# Altium integrated library Xilinx Virtex-II Pro.IntLib: 140 symbols (part 4 of 77)
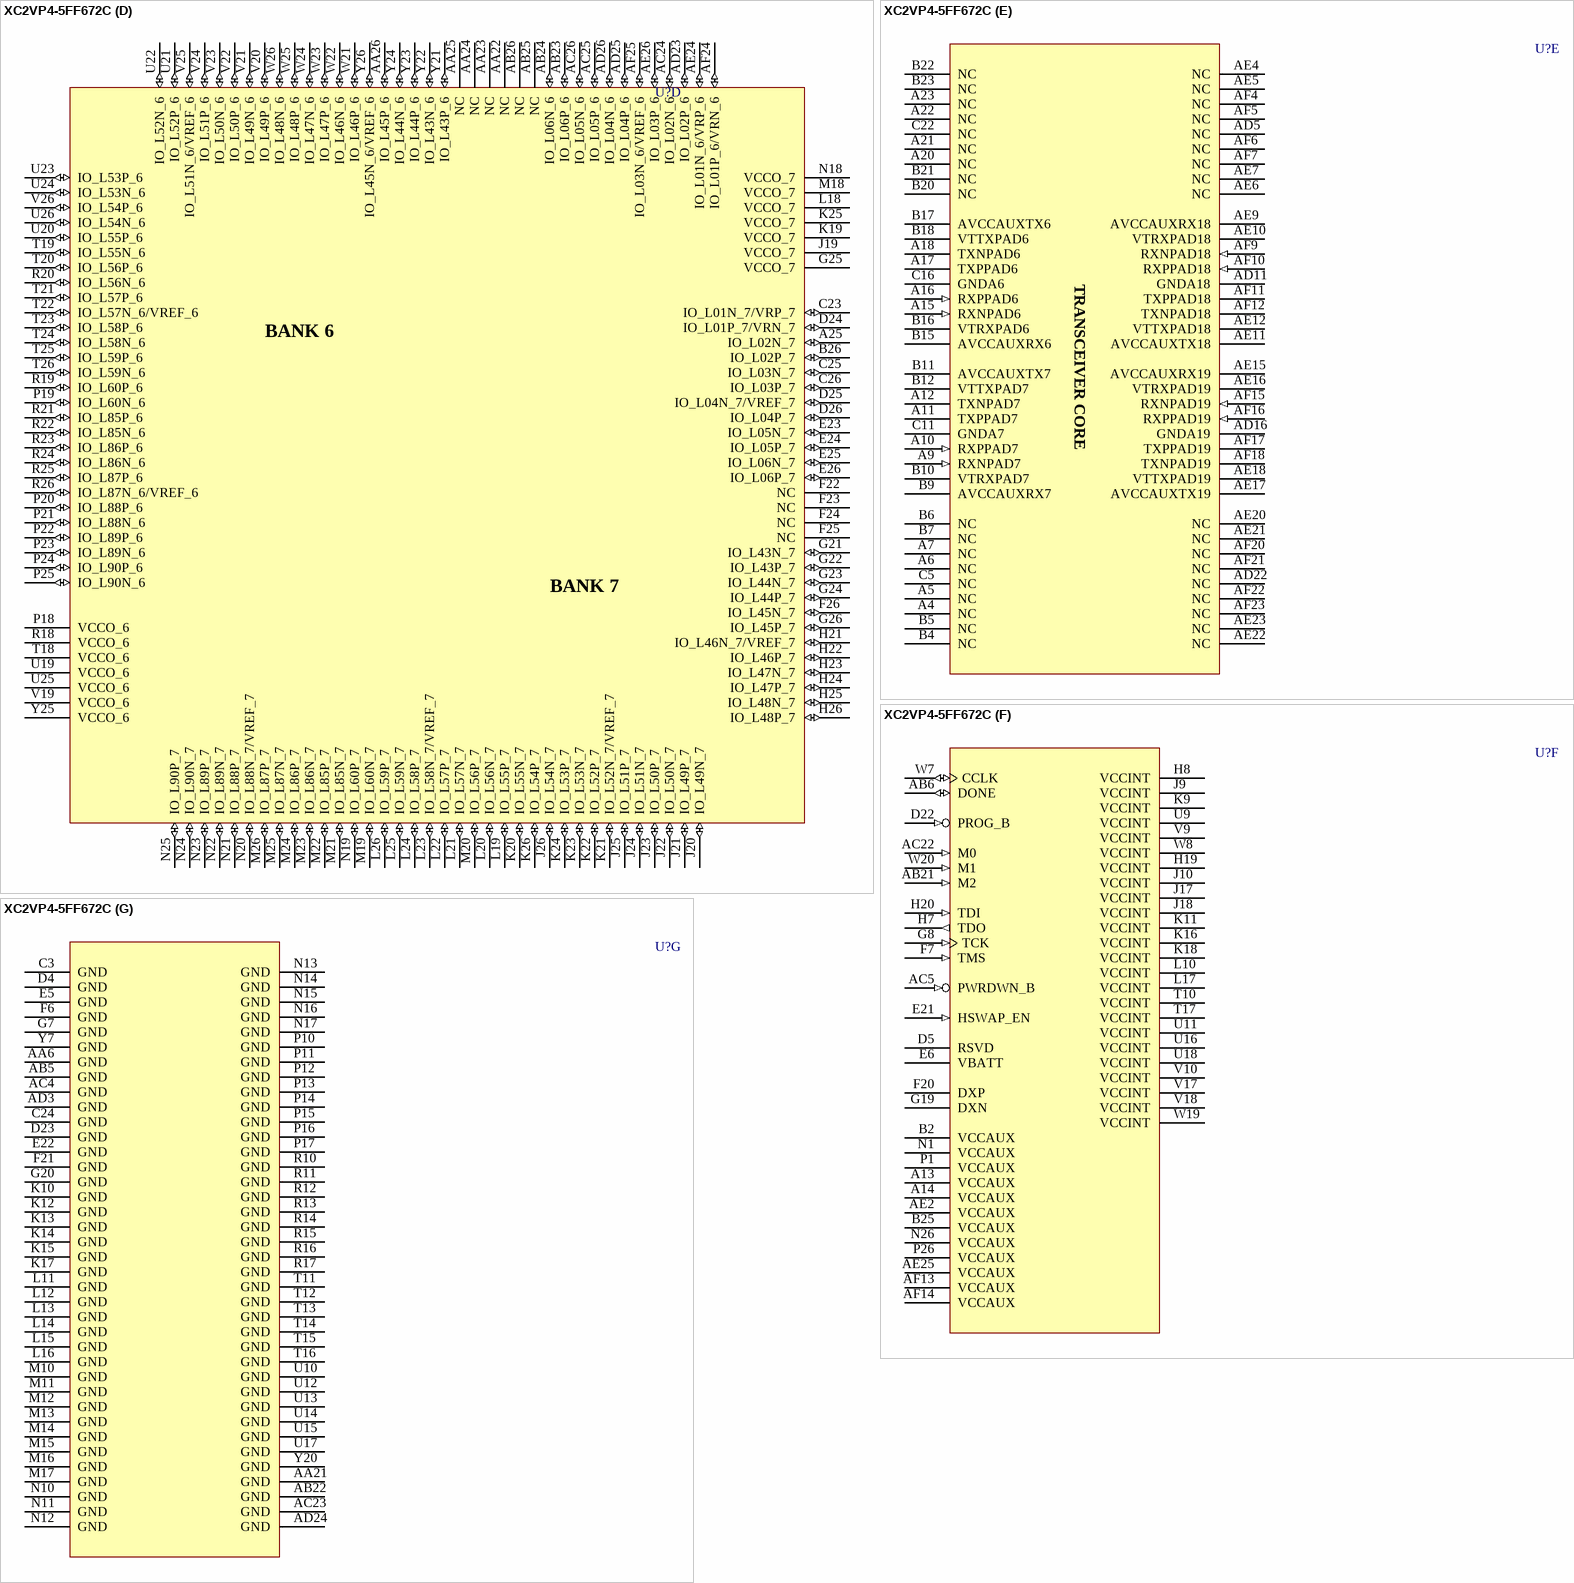
[diagram p402: symbol XC2VP4-5FF672C]

## XC2VP4-5FF672C
designator U?
Virtex-II Pro Platform FPGA, 672-Ball FFBGA, Speed Grade 5, 348 User I/Os, Commercial Grade; ManufacturerRecommends: Solder pad diameter 0.48mm SMD; PackageDocument: ver1.0, Oct-2002; User_I/Os: 348; Published: 17-Jul-2002; LatestRevisionDate: 16-Apr-2003; LatestRevisionNote: Minor layout changes, TXN/TXP Pins changed from 'Output' to 'HiZ'.  'PROG_B' pin types changed from IO to Input.; DatasheetDocument: 22-Apr-2004; PackageReference: FF672; Publisher: Altium Limited; Code_JEDEC: MS-034-AAL-1
footprint FF672 (672-Ball Flip-Chip Fine Pitch Ball Grid Array (FF672))
3D model XC2VP4-FF672 (672-Ball Flip-Chip Fine Pitch Ball Grid Array (FF672))
signal-integrity model XC2VP4_FF672 (Virtex-II Pro)
part A pins: A3 IO_L01N_1/VRP_1 (io), A8 IO_L08N_1 (io), A19 IO_L08P_0 (io), A24 IO_L01P_0/VRN_0 (io), B3 IO_L01P_1/VRN_1 (io), B8 IO_L08P_1 (io), B13 IO_L75N_1/GCLK3P (io), B14 IO_L75P_0/GCLK4S (io), B19 IO_L08N_0 (io), B24 IO_L01N_0/VRP_0 (io), C6 IO_L02N_1 (io), C7 VCCO_1 (power), C8 IO_L07N_1 (io), C9 NC, C10 VCCO_1 (power), C12 IO_L68N_1 (io), C13 IO_L75P_1/GCLK2S (io), C14 IO_L75N_0/GCLK5P (io), C15 IO_L68P_0 (io), C17 VCCO_0 (power), C18 NC, C19 IO_L07P_0 (io), C20 VCCO_0 (power), C21 IO_L02P_0 (io), D6 IO_L02P_1 (io), D7 IO_L03N_1/VREF_1 (io), D8 IO_L07P_1 (io), D9 NC, D10 NC, D11 NC, D12 IO_L68P_1 (io), D13 IO_L74N_1/GCLK1P (io), D14 IO_L74P_0/GCLK6S (io), D15 IO_L68N_0 (io), D16 NC, D17 NC, D18 NC, D19 IO_L07N_0 (io), D20 IO_L03P_0/VREF_0 (io), D21 IO_L02N_0 (io), E7 IO_L03P_1 (io), E8 IO_L06P_1 (io), E9 IO_L06N_1 (io), E10 NC, E11 NC, E12 IO_L67N_1 (io), E13 IO_L74P_1/GCLK0S (io), E14 IO_L74N_0/GCLK7P (io), E15 IO_L67P_0 (io), E16 NC, E17 NC, E18 IO_L06P_0 (io), E19 IO_L06N_0 (io), E20 IO_L03N_0 (io), F8 IO_L05_1/No_Pair (io), F9 IO_L09N_1/VREF_1 (io), F10 NC, F11 NC, F12 IO_L67P_1 (io), F13 IO_L73N_1 (io), F14 IO_L73P_0 (io), F15 IO_L67N_0 (io), F16 NC, F17 NC, F18 IO_L09P_0/VREF_0 (io), F19 IO_L05_0/No_Pair (io), G9 IO_L09P_1 (io), G10 NC, G11 NC, G12 NC, G13 IO_L73P_1 (io), G14 IO_L73N_0 (io), G15 NC, G16 NC, G17 NC, G18 IO_L09N_0 (io), H9 VCCO_1 (power), H10 VCCO_1 (power), H11 NC, H12 IO_L69P_1 (io), H13 IO_L69N_1/VREF_1 (io), H14 IO_L69P_0/VREF_0 (io), H15 IO_L69N_0 (io), H16 NC, H17 VCCO_0 (power), H18 VCCO_0 (power), J11 VCCO_1 (power), J12 VCCO_1 (power), J13 VCCO_1 (power), J14 VCCO_0 (power), J15 VCCO_0 (power), J16 VCCO_0 (power)
part B pins: A2 IO_L02N_2 (io), AA1 IO_L45P_3 (io), AA2 NC, AA3 NC, AA4 NC, AA5 NC, AB1 NC, AB2 NC, AB3 IO_L06N_3 (io), AB4 IO_L06P_3 (io), AC1 IO_L05N_3 (io), AC2 IO_L05P_3 (io), AC3 IO_L02N_3 (io), AD1 IO_L04N_3 (io), AD2 IO_L04P_3 (io), AD4 IO_L02P_3 (io), AE1 IO_L03N_3/VREF_3 (io), AE3 IO_L01N_3/VRP_3 (io), AF2 IO_L03P_3 (io), AF3 IO_L01P_3/VRN_3 (io), B1 IO_L02P_2 (io), C1 IO_L03P_2 (io), C2 IO_L03N_2 (io), C4 IO_L01N_2/VRP_2 (io), D1 IO_L04P_2 (io), D2 IO_L04N_2/VREF_2 (io), D3 IO_L01P_2/VRN_2 (io), E1 IO_L06P_2 (io), E2 IO_L06N_2 (io), E3 IO_L05P_2 (io), E4 IO_L05N_2 (io), F1 IO_L45N_2 (io), F2 NC, F3 NC, F4 NC, F5 NC, G1 IO_L45P_2 (io), G2 VCCO_2 (power), G3 IO_L44P_2 (io), G4 IO_L44N_2 (io), G5 IO_L43P_2 (io), G6 IO_L43N_2 (io), H1 IO_L48P_2 (io), H2 IO_L48N_2 (io), H3 IO_L47P_2 (io), H4 IO_L47N_2 (io), H5 IO_L46P_2 (io), H6 IO_L46N_2/VREF_2 (io), J1 IO_L54N_2 (io), J2 IO_L51P_2 (io), J3 IO_L51N_2 (io), J4 IO_L50P_2 (io), J5 IO_L50N_2 (io), J6 IO_L49P_2 (io), J7 IO_L49N_2 (io), J8 VCCO_2 (power), K1 IO_L54P_2 (io), K2 VCCO_2 (power), K3 IO_L53P_2 (io), K4 IO_L53N_2 (io), K5 IO_L52P_2 (io), K6 IO_L52N_2/VREF_2 (io), K7 IO_L55N_2 (io), K8 VCCO_2 (power), L1 IO_L59P_2 (io), L2 IO_L59N_2 (io), L3 IO_L58P_2 (io), L4 IO_L58N_2/VREF_2 (io), L5 IO_L57P_2 (io), L6 IO_L57N_2 (io), L7 IO_L56N_2 (io), L8 IO_L55P_2 (io), L9 VCCO_2 (power), M1 IO_L87P_2 (io), M2 IO_L87N_2 (io), M3 IO_L86P_2 (io), M4 IO_L86N_2 (io), M5 IO_L85P_2 (io), M6 IO_L85N_2 (io), M7 IO_L56P_2 (io), M8 IO_L60N_2 (io), M9 VCCO_2 (power), N2 IO_L90P_2 (io), N3 IO_L90N_2 (io), N4 IO_L89P_2 (io), N5 IO_L89N_2 (io), N6 IO_L88P_2 (io), N7 IO_L88N_2/VREF_2 (io), N8 IO_L60P_2 (io), N9 VCCO_2 (power), P2 IO_L90N_3 (io), P3 IO_L90P_3 (io), P4 IO_L89N_3 (io), P5 IO_L89P_3 (io), P6 IO_L88N_3 (io), P7 IO_L88P_3 (io), P8 IO_L60N_3 (io), P9 VCCO_3 (power), R1 IO_L87N_3/VREF_3 (io), R2 IO_L87P_3 (io), R3 IO_L86N_3 (io), R4 IO_L86P_3 (io), R5 IO_L85N_3 (io), R6 IO_L85P_3 (io), R7 IO_L56N_3 (io), R8 IO_L60P_3 (io), R9 VCCO_3 (power), T1 IO_L59N_3 (io), T2 IO_L59P_3 (io), T3 IO_L58N_3 (io), T4 IO_L58P_3 (io), T5 IO_L57N_3/VREF_3 (io), T6 IO_L57P_3 (io), T7 IO_L56P_3 (io), T8 IO_L55N_3 (io), T9 VCCO_3 (power), U1 IO_L54N_3 (io), U2 VCCO_3 (power), U3 IO_L53N_3 (io), U4 IO_L53P_3 (io), U5 IO_L52N_3 (io), U6 IO_L52P_3 (io), U7 IO_L55P_3 (io), U8 VCCO_3 (power), V1 IO_L54P_3 (io), V2 IO_L51N_3/VREF_3 (io), V3 IO_L51P_3 (io), V4 IO_L50N_3 (io), V5 IO_L50P_3 (io), V6 IO_L49N_3 (io), V7 IO_L49P_3 (io), V8 VCCO_3 (power), W1 IO_L48N_3 (io), W2 IO_L48P_3 (io), W3 IO_L47N_3 (io), W4 IO_L47P_3 (io), W5 IO_L46N_3 (io), W6 IO_L46P_3 (io), Y1 IO_L45N_3/VREF_3 (io), Y2 VCCO_3 (power), Y3 IO_L44N_3 (io), Y4 IO_L44P_3 (io), Y5 IO_L43N_3 (io), Y6 IO_L43P_3 (io)
part C pins: AA7 IO_L03N_4/D2 (io), AA8 IO_L03P_4/D3 (io), AA9 IO_L09P_4/VREF_4 (io), AA10 NC, AA11 NC, AA12 IO_L67N_4 (io), AA13 IO_L73P_4 (io), AA14 IO_L73N_5 (io), AA15 IO_L67P_5 (io), AA16 NC, AA17 NC, AA18 IO_L09N_5/VREF_5 (io), AA19 IO_L03N_5/D4 (io), AA20 IO_L03P_5/D5 (io), AB7 IO_L02N_4/D0 (io), AB8 IO_L06N_4/VRP_4 (io), AB9 IO_L06P_4/VRN_4 (io), AB10 NC, AB11 NC, AB12 IO_L67P_4 (io), AB13 IO_L74N_4/GCLK3S (io), AB14 IO_L74P_5/GCLK4P (io), AB15 IO_L67N_5 (io), AB16 NC, AB17 NC, AB18 IO_L06N_5/VRP_5 (io), AB19 IO_L06P_5/VRN_5 (io), AB20 IO_L02P_5/D7 (io), AC6 IO_L01N_4/DOUT (io), AC7 IO_L02P_4/D1 (io), AC8 IO_L07N_4 (io), AC9 NC, AC10 NC, AC11 NC, AC12 IO_L68N_4 (io), AC13 IO_L74P_4/GCLK2P (io), AC14 IO_L74N_5/GCLK5S (io), AC15 IO_L68P_5 (io), AC16 NC, AC17 NC, AC18 NC, AC19 IO_L07P_5 (io), AC20 IO_L02N_5/D6 (io), AC21 IO_L01P_5/CS_B (io), AD6 IO_L01P_4/INIT_B (io), AD7 VCCO_4 (power), AD8 IO_L07P_4/VREF_4 (io), AD9 NC, AD10 VCCO_4 (power), AD12 IO_L68P_4 (io), AD13 IO_L75N_4/GCLK1S (io), AD14 IO_L75P_5/GCLK6P (io), AD15 IO_L68N_5 (io), AD17 VCCO_5 (power), AD18 NC, AD19 IO_L07N_5/VREF_5 (io), AD20 VCCO_5 (power), AD21 IO_L01N_5/RDWR_B (io), AE8 IO_L08N_4 (io), AE13 IO_L75P_4/GCLK0P (io), AE14 IO_L75N_5/GCLK7S (io), AE19 IO_L08P_5 (io), AF8 IO_L08P_4 (io), AF19 IO_L08N_5 (io), V11 VCCO_4 (power), V12 VCCO_4 (power), V13 VCCO_4 (power), V14 VCCO_5 (power), V15 VCCO_5 (power), V16 VCCO_5 (power), W9 VCCO_4 (power), W10 VCCO_4 (power), W11 NC, W12 IO_L69N_4 (io), W13 IO_L69P_4/VREF_4 (io), W14 IO_L69N_5/VREF_5 (io), W15 IO_L69P_5 (io), W16 NC, W17 VCCO_5 (power), W18 VCCO_5 (power), Y8 IO_L05_4/No_Pair (io), Y9 IO_L09N_4 (io), Y10 NC, Y11 NC, Y12 NC, Y13 IO_L73N_4 (io), Y14 IO_L73P_5 (io), Y15 NC, Y16 NC, Y17 NC, Y18 IO_L09P_5 (io), Y19 IO_L05_5/No_Pair (io)
part D pins: A25 IO_L02N_7 (io), AA22 NC, AA23 NC, AA24 NC, AA25 NC, AA26 IO_L45P_6 (io), AB23 IO_L06P_6 (io), AB24 IO_L06N_6 (io), AB25 NC, AB26 NC, AC24 IO_L02N_6 (io), AC25 IO_L05P_6 (io), AC26 IO_L05N_6 (io), AD23 IO_L02P_6 (io), AD25 IO_L04P_6 (io), AD26 IO_L04N_6 (io), AE24 IO_L01N_6/VRP_6 (io), AE26 IO_L03P_6 (io), AF24 IO_L01P_6/VRN_6 (io), AF25 IO_L03N_6/VREF_6 (io), B26 IO_L02P_7 (io), C23 IO_L01N_7/VRP_7 (io), C25 IO_L03N_7 (io), C26 IO_L03P_7 (io), D24 IO_L01P_7/VRN_7 (io), D25 IO_L04N_7/VREF_7 (io), D26 IO_L04P_7 (io), E23 IO_L05N_7 (io), E24 IO_L05P_7 (io), E25 IO_L06N_7 (io), E26 IO_L06P_7 (io), F22 NC, F23 NC, F24 NC, F25 NC, F26 IO_L45N_7 (io), G21 IO_L43N_7 (io), G22 IO_L43P_7 (io), G23 IO_L44N_7 (io), G24 IO_L44P_7 (io), G25 VCCO_7 (power), G26 IO_L45P_7 (io), H21 IO_L46N_7/VREF_7 (io), H22 IO_L46P_7 (io), H23 IO_L47N_7 (io), H24 IO_L47P_7 (io), H25 IO_L48N_7 (io), H26 IO_L48P_7 (io), J19 VCCO_7 (power), J20 IO_L49N_7 (io), J21 IO_L49P_7 (io), J22 IO_L50N_7 (io), J23 IO_L50P_7 (io), J24 IO_L51N_7 (io), J25 IO_L51P_7 (io), J26 IO_L54N_7 (io), K19 VCCO_7 (power), K20 IO_L55N_7 (io), K21 IO_L52N_7/VREF_7 (io), K22 IO_L52P_7 (io), K23 IO_L53N_7 (io), K24 IO_L53P_7 (io), K25 VCCO_7 (power), K26 IO_L54P_7 (io), L18 VCCO_7 (power), L19 IO_L55P_7 (io), L20 IO_L56N_7 (io), L21 IO_L57N_7 (io), L22 IO_L57P_7 (io), L23 IO_L58N_7/VREF_7 (io), L24 IO_L58P_7 (io), L25 IO_L59N_7 (io), L26 IO_L59P_7 (io), M18 VCCO_7 (power), M19 IO_L60N_7 (io), M20 IO_L56P_7 (io), M21 IO_L85N_7 (io), M22 IO_L85P_7 (io), M23 IO_L86N_7 (io), M24 IO_L86P_7 (io), M25 IO_L87N_7 (io), M26 IO_L87P_7 (io), N18 VCCO_7 (power), N19 IO_L60P_7 (io), N20 IO_L88N_7/VREF_7 (io), N21 IO_L88P_7 (io), N22 IO_L89N_7 (io), N23 IO_L89P_7 (io), N24 IO_L90N_7 (io), N25 IO_L90P_7 (io), P18 VCCO_6 (power), P19 IO_L60N_6 (io), P20 IO_L88P_6 (io), P21 IO_L88N_6 (io), P22 IO_L89P_6 (io), P23 IO_L89N_6 (io), P24 IO_L90P_6 (io), P25 IO_L90N_6 (io), R18 VCCO_6 (power), R19 IO_L60P_6 (io), R20 IO_L56N_6 (io), R21 IO_L85P_6 (io), R22 IO_L85N_6 (io), R23 IO_L86P_6 (io), R24 IO_L86N_6 (io), R25 IO_L87P_6 (io), R26 IO_L87N_6/VREF_6 (io), T18 VCCO_6 (power), T19 IO_L55N_6 (io), T20 IO_L56P_6 (io), T21 IO_L57P_6 (io), T22 IO_L57N_6/VREF_6 (io), T23 IO_L58P_6 (io), T24 IO_L58N_6 (io), T25 IO_L59P_6 (io), T26 IO_L59N_6 (io), U19 VCCO_6 (power), U20 IO_L55P_6 (io), U21 IO_L52P_6 (io), U22 IO_L52N_6 (io), U23 IO_L53P_6 (io), U24 IO_L53N_6 (io), U25 VCCO_6 (power), U26 IO_L54N_6 (io), V19 VCCO_6 (power), V20 IO_L49P_6 (io), V21 IO_L49N_6 (io), V22 IO_L50P_6 (io), V23 IO_L50N_6 (io), V24 IO_L51P_6 (io), V25 IO_L51N_6/VREF_6 (io), V26 IO_L54P_6 (io), W21 IO_L46P_6 (io), W22 IO_L46N_6 (io), W23 IO_L47P_6 (io), W24 IO_L47N_6 (io), W25 IO_L48P_6 (io), W26 IO_L48N_6 (io), Y21 IO_L43P_6 (io), Y22 IO_L43N_6 (io), Y23 IO_L44P_6 (io), Y24 IO_L44N_6 (io), Y25 VCCO_6 (power), Y26 IO_L45N_6/VREF_6 (io)
part E pins: A4 NC, A5 NC, A6 NC, A7 NC, A9 RXNPAD7 (in), A10 RXPPAD7 (in), A11 TXPPAD7 (hiz), A12 TXNPAD7 (hiz), A15 RXNPAD6 (in), A16 RXPPAD6 (in), A17 TXPPAD6 (hiz), A18 TXNPAD6 (hiz), A20 NC, A21 NC, A22 NC, A23 NC, AD5 NC, AD11 GNDA18 (power), AD16 GNDA19 (power), AD22 NC, AE4 NC, AE5 NC, AE6 NC, AE7 NC, AE9 AVCCAUXRX18 (power), AE10 VTRXPAD18 (power), AE11 AVCCAUXTX18 (power), AE12 VTTXPAD18 (power), AE15 AVCCAUXRX19 (power), AE16 VTRXPAD19 (power), AE17 AVCCAUXTX19 (power), AE18 VTTXPAD19 (power), AE20 NC, AE21 NC, AE22 NC, AE23 NC, AF4 NC, AF5 NC, AF6 NC, AF7 NC, AF9 RXNPAD18 (in), AF10 RXPPAD18 (in), AF11 TXPPAD18 (hiz), AF12 TXNPAD18 (hiz), AF15 RXNPAD19 (in), AF16 RXPPAD19 (in), AF17 TXPPAD19 (hiz), AF18 TXNPAD19 (hiz), AF20 NC, AF21 NC, AF22 NC, AF23 NC, B4 NC, B5 NC, B6 NC, B7 NC, B9 AVCCAUXRX7 (power), B10 VTRXPAD7 (power), B11 AVCCAUXTX7 (power), B12 VTTXPAD7 (power), B15 AVCCAUXRX6 (power), B16 VTRXPAD6 (power), B17 AVCCAUXTX6 (power), B18 VTTXPAD6 (power), B20 NC, B21 NC, B22 NC, B23 NC, C5 NC, C11 GNDA7 (power), C16 GNDA6 (power), C22 NC
part F pins: A13 VCCAUX (power), A14 VCCAUX (power), AB6 DONE (io), AB21 M2 (in), AC5 PWRDWN_B (in), AC22 M0 (in), AE2 VCCAUX (power), AE25 VCCAUX (power), AF13 VCCAUX (power), AF14 VCCAUX (power), B2 VCCAUX (power), B25 VCCAUX (power), D5 RSVD, D22 PROG_B (in), E6 VBATT (power), E21 HSWAP_EN (in), F7 TMS (in), F20 DXP, G8 TCK (in), G19 DXN, H7 TDO (out), H8 VCCINT (power), H19 VCCINT (power), H20 TDI (in), J9 VCCINT (power), J10 VCCINT (power), J17 VCCINT (power), J18 VCCINT (power), K9 VCCINT (power), K11 VCCINT (power), K16 VCCINT (power), K18 VCCINT (power), L10 VCCINT (power), L17 VCCINT (power), N1 VCCAUX (power), N26 VCCAUX (power), P1 VCCAUX (power), P26 VCCAUX (power), T10 VCCINT (power), T17 VCCINT (power), U9 VCCINT (power), U11 VCCINT (power), U16 VCCINT (power), U18 VCCINT (power), V9 VCCINT (power), V10 VCCINT (power), V17 VCCINT (power), V18 VCCINT (power), W7 CCLK (io), W8 VCCINT (power), W19 VCCINT (power), W20 M1 (in)
part G pins: AA6 GND (power), AA21 GND (power), AB5 GND (power), AB22 GND (power), AC4 GND (power), AC23 GND (power), AD3 GND (power), AD24 GND (power), C3 GND (power), C24 GND (power), D4 GND (power), D23 GND (power), E5 GND (power), E22 GND (power), F6 GND (power), F21 GND (power), G7 GND (power), G20 GND (power), K10 GND (power), K12 GND (power), K13 GND (power), K14 GND (power), K15 GND (power), K17 GND (power), L11 GND (power), L12 GND (power), L13 GND (power), L14 GND (power), L15 GND (power), L16 GND (power), M10 GND (power), M11 GND (power), M12 GND (power), M13 GND (power), M14 GND (power), M15 GND (power), M16 GND (power), M17 GND (power), N10 GND (power), N11 GND (power), N12 GND (power), N13 GND (power), N14 GND (power), N15 GND (power), N16 GND (power), N17 GND (power), P10 GND (power), P11 GND (power), P12 GND (power), P13 GND (power), P14 GND (power), P15 GND (power), P16 GND (power), P17 GND (power), R10 GND (power), R11 GND (power), R12 GND (power), R13 GND (power), R14 GND (power), R15 GND (power), R16 GND (power), R17 GND (power), T11 GND (power), T12 GND (power), T13 GND (power), T14 GND (power), T15 GND (power), T16 GND (power), U10 GND (power), U12 GND (power), U13 GND (power), U14 GND (power), U15 GND (power), U17 GND (power), Y7 GND (power), Y20 GND (power)
part A text: BANK 0; BANK 1
part B text: BANK 2; BANK 3
part C text: BANK 4; BANK 5
part D text: BANK 6; BANK 7
part E text: TRANSCEIVER CORE

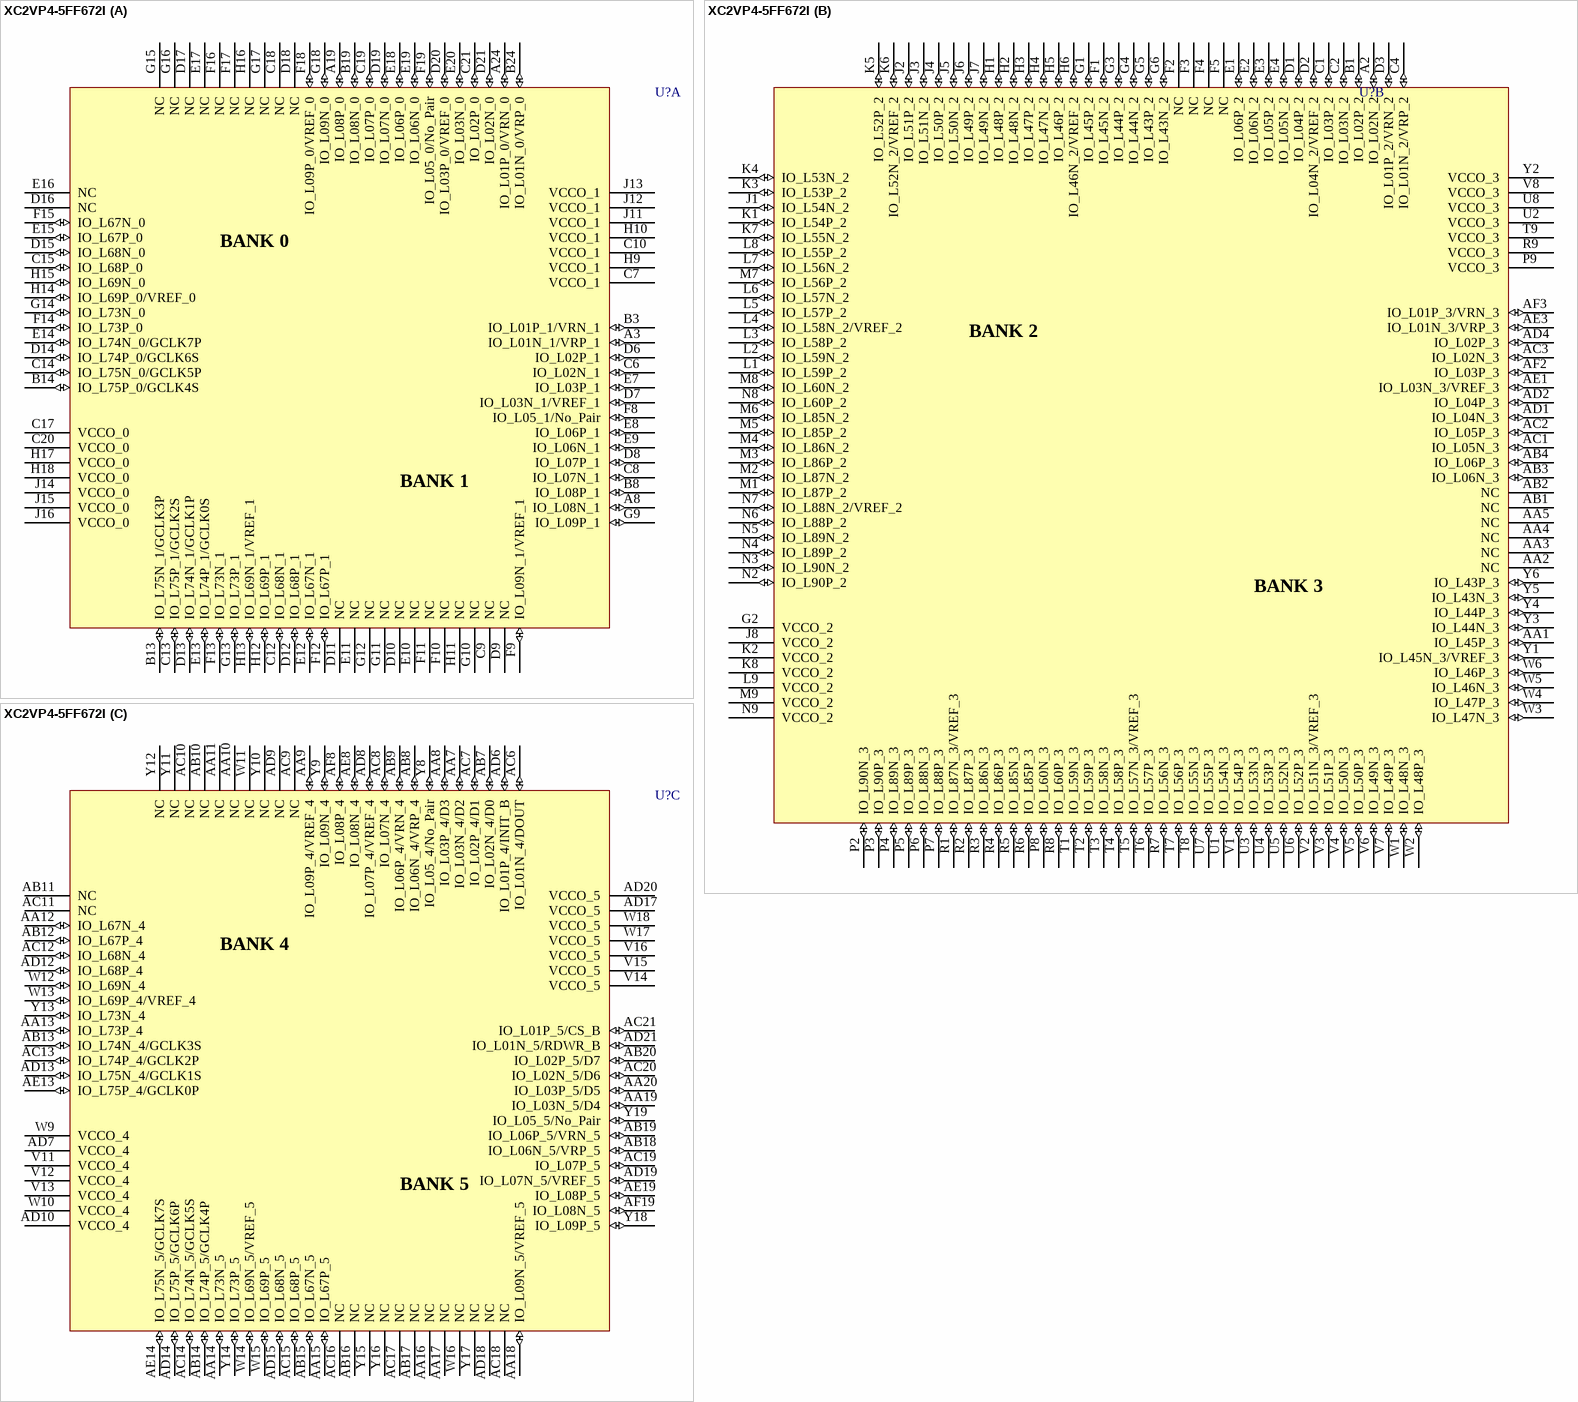
[diagram p32: symbol XC2VP4-5FF672I]

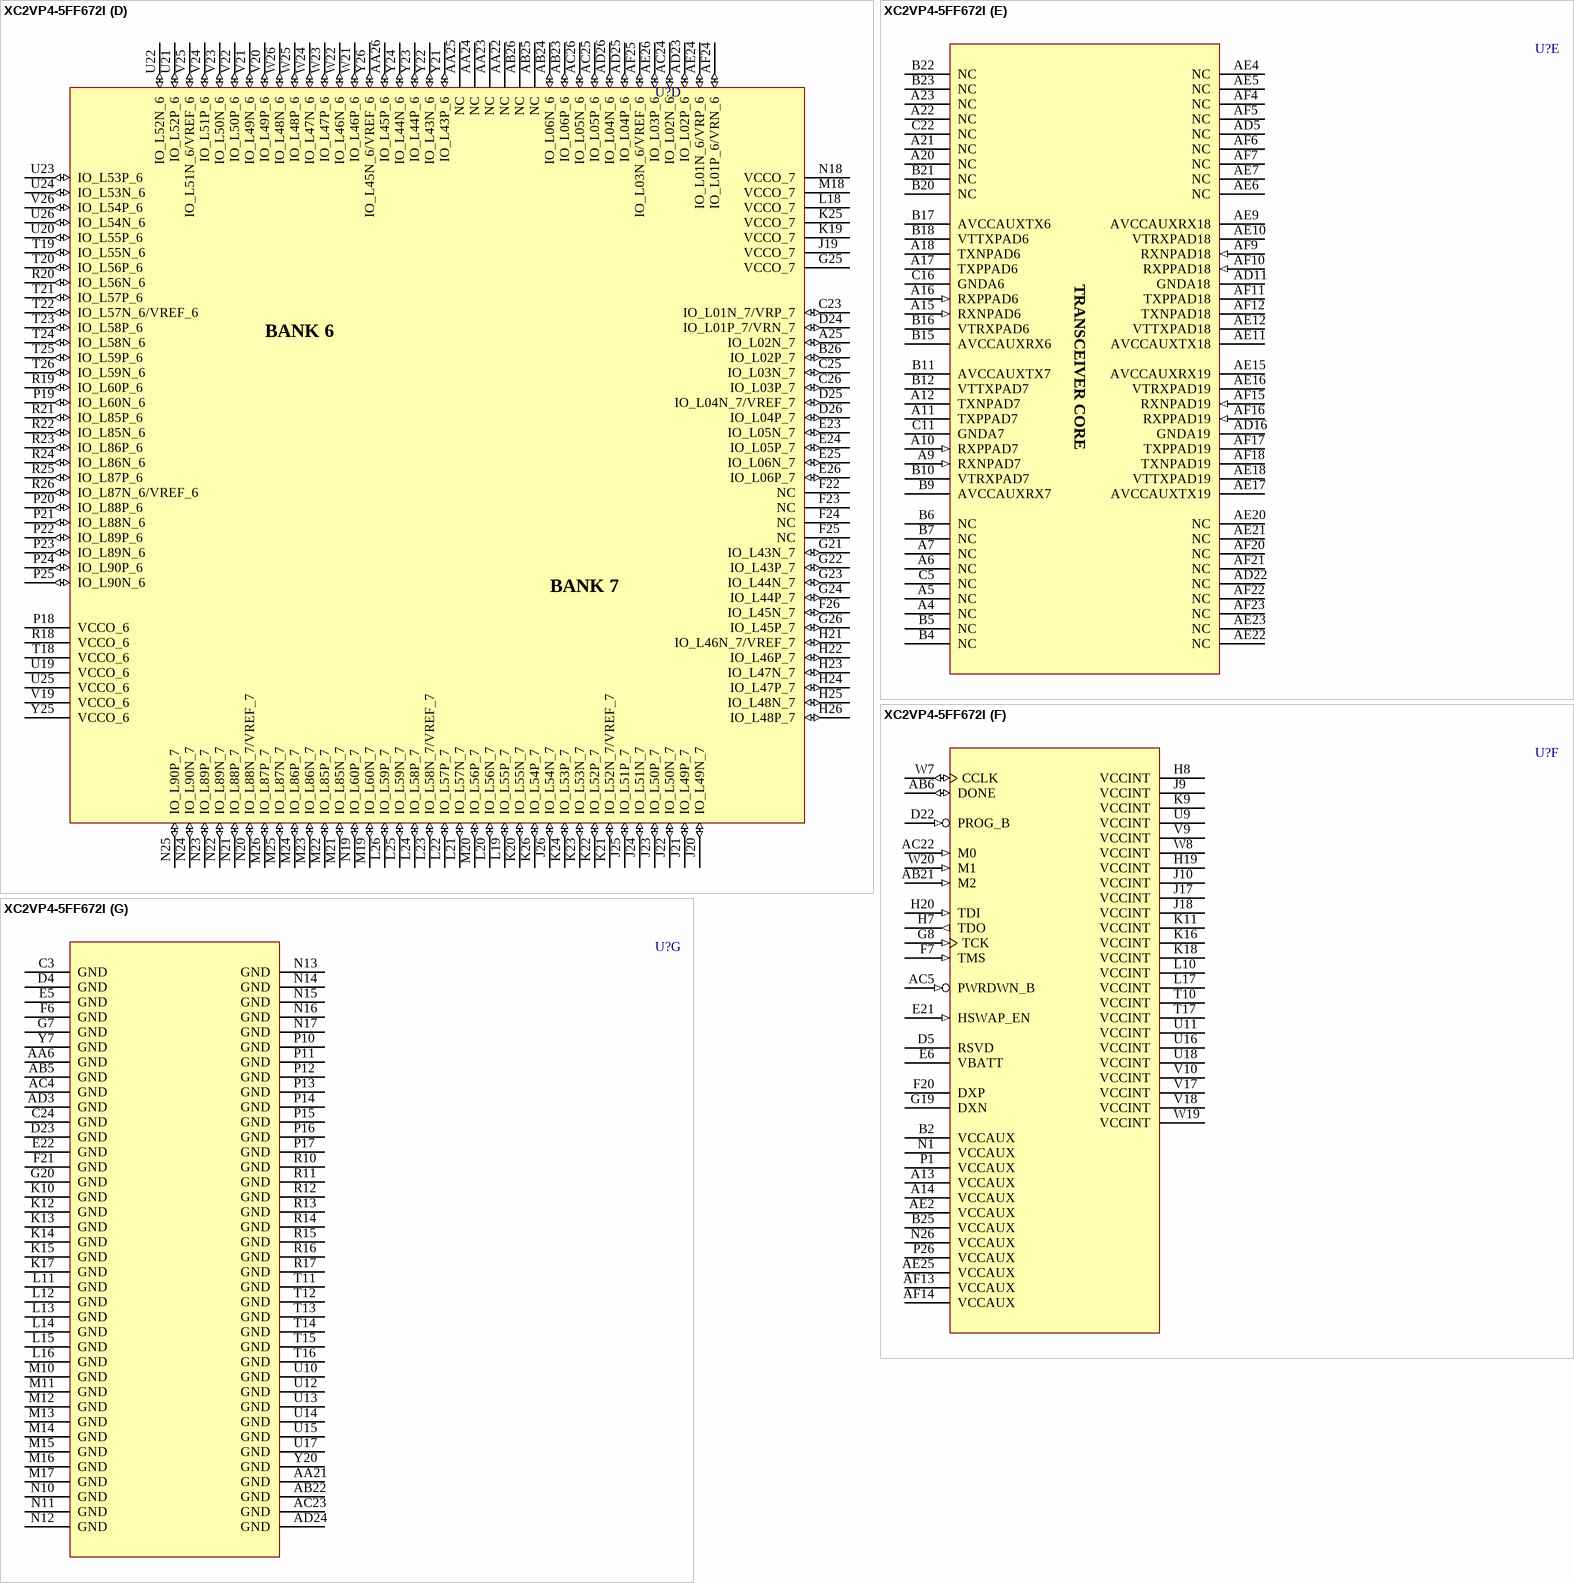
[diagram p33: symbol XC2VP4-5FF672I]

## XC2VP4-5FF672I
designator U?
Virtex-II Pro Platform FPGA, 672-Ball FFBGA, Speed Grade 5, 348 User I/Os, Industrial Grade; ManufacturerRecommends: Solder pad diameter 0.48mm SMD; PackageDocument: ver1.0, Oct-2002; User_I/Os: 348; Published: 17-Jul-2002; LatestRevisionDate: 16-Apr-2003; LatestRevisionNote: Minor layout changes, TXN/TXP Pins changed from 'Output' to 'HiZ'.  'PROG_B' pin types changed from IO to Input.; DatasheetDocument: 22-Apr-2004; PackageReference: FF672; Publisher: Altium Limited; Code_JEDEC: MS-034-AAL-1
footprint FF672 (672-Ball Flip-Chip Fine Pitch Ball Grid Array (FF672))
3D model XC2VP4-FF672 (672-Ball Flip-Chip Fine Pitch Ball Grid Array (FF672))
signal-integrity model XC2VP4_FF672 (Virtex-II Pro)
part A pins: A3 IO_L01N_1/VRP_1 (io), A8 IO_L08N_1 (io), A19 IO_L08P_0 (io), A24 IO_L01P_0/VRN_0 (io), B3 IO_L01P_1/VRN_1 (io), B8 IO_L08P_1 (io), B13 IO_L75N_1/GCLK3P (io), B14 IO_L75P_0/GCLK4S (io), B19 IO_L08N_0 (io), B24 IO_L01N_0/VRP_0 (io), C6 IO_L02N_1 (io), C7 VCCO_1 (power), C8 IO_L07N_1 (io), C9 NC, C10 VCCO_1 (power), C12 IO_L68N_1 (io), C13 IO_L75P_1/GCLK2S (io), C14 IO_L75N_0/GCLK5P (io), C15 IO_L68P_0 (io), C17 VCCO_0 (power), C18 NC, C19 IO_L07P_0 (io), C20 VCCO_0 (power), C21 IO_L02P_0 (io), D6 IO_L02P_1 (io), D7 IO_L03N_1/VREF_1 (io), D8 IO_L07P_1 (io), D9 NC, D10 NC, D11 NC, D12 IO_L68P_1 (io), D13 IO_L74N_1/GCLK1P (io), D14 IO_L74P_0/GCLK6S (io), D15 IO_L68N_0 (io), D16 NC, D17 NC, D18 NC, D19 IO_L07N_0 (io), D20 IO_L03P_0/VREF_0 (io), D21 IO_L02N_0 (io), E7 IO_L03P_1 (io), E8 IO_L06P_1 (io), E9 IO_L06N_1 (io), E10 NC, E11 NC, E12 IO_L67N_1 (io), E13 IO_L74P_1/GCLK0S (io), E14 IO_L74N_0/GCLK7P (io), E15 IO_L67P_0 (io), E16 NC, E17 NC, E18 IO_L06P_0 (io), E19 IO_L06N_0 (io), E20 IO_L03N_0 (io), F8 IO_L05_1/No_Pair (io), F9 IO_L09N_1/VREF_1 (io), F10 NC, F11 NC, F12 IO_L67P_1 (io), F13 IO_L73N_1 (io), F14 IO_L73P_0 (io), F15 IO_L67N_0 (io), F16 NC, F17 NC, F18 IO_L09P_0/VREF_0 (io), F19 IO_L05_0/No_Pair (io), G9 IO_L09P_1 (io), G10 NC, G11 NC, G12 NC, G13 IO_L73P_1 (io), G14 IO_L73N_0 (io), G15 NC, G16 NC, G17 NC, G18 IO_L09N_0 (io), H9 VCCO_1 (power), H10 VCCO_1 (power), H11 NC, H12 IO_L69P_1 (io), H13 IO_L69N_1/VREF_1 (io), H14 IO_L69P_0/VREF_0 (io), H15 IO_L69N_0 (io), H16 NC, H17 VCCO_0 (power), H18 VCCO_0 (power), J11 VCCO_1 (power), J12 VCCO_1 (power), J13 VCCO_1 (power), J14 VCCO_0 (power), J15 VCCO_0 (power), J16 VCCO_0 (power)
part B pins: A2 IO_L02N_2 (io), AA1 IO_L45P_3 (io), AA2 NC, AA3 NC, AA4 NC, AA5 NC, AB1 NC, AB2 NC, AB3 IO_L06N_3 (io), AB4 IO_L06P_3 (io), AC1 IO_L05N_3 (io), AC2 IO_L05P_3 (io), AC3 IO_L02N_3 (io), AD1 IO_L04N_3 (io), AD2 IO_L04P_3 (io), AD4 IO_L02P_3 (io), AE1 IO_L03N_3/VREF_3 (io), AE3 IO_L01N_3/VRP_3 (io), AF2 IO_L03P_3 (io), AF3 IO_L01P_3/VRN_3 (io), B1 IO_L02P_2 (io), C1 IO_L03P_2 (io), C2 IO_L03N_2 (io), C4 IO_L01N_2/VRP_2 (io), D1 IO_L04P_2 (io), D2 IO_L04N_2/VREF_2 (io), D3 IO_L01P_2/VRN_2 (io), E1 IO_L06P_2 (io), E2 IO_L06N_2 (io), E3 IO_L05P_2 (io), E4 IO_L05N_2 (io), F1 IO_L45N_2 (io), F2 NC, F3 NC, F4 NC, F5 NC, G1 IO_L45P_2 (io), G2 VCCO_2 (power), G3 IO_L44P_2 (io), G4 IO_L44N_2 (io), G5 IO_L43P_2 (io), G6 IO_L43N_2 (io), H1 IO_L48P_2 (io), H2 IO_L48N_2 (io), H3 IO_L47P_2 (io), H4 IO_L47N_2 (io), H5 IO_L46P_2 (io), H6 IO_L46N_2/VREF_2 (io), J1 IO_L54N_2 (io), J2 IO_L51P_2 (io), J3 IO_L51N_2 (io), J4 IO_L50P_2 (io), J5 IO_L50N_2 (io), J6 IO_L49P_2 (io), J7 IO_L49N_2 (io), J8 VCCO_2 (power), K1 IO_L54P_2 (io), K2 VCCO_2 (power), K3 IO_L53P_2 (io), K4 IO_L53N_2 (io), K5 IO_L52P_2 (io), K6 IO_L52N_2/VREF_2 (io), K7 IO_L55N_2 (io), K8 VCCO_2 (power), L1 IO_L59P_2 (io), L2 IO_L59N_2 (io), L3 IO_L58P_2 (io), L4 IO_L58N_2/VREF_2 (io), L5 IO_L57P_2 (io), L6 IO_L57N_2 (io), L7 IO_L56N_2 (io), L8 IO_L55P_2 (io), L9 VCCO_2 (power), M1 IO_L87P_2 (io), M2 IO_L87N_2 (io), M3 IO_L86P_2 (io), M4 IO_L86N_2 (io), M5 IO_L85P_2 (io), M6 IO_L85N_2 (io), M7 IO_L56P_2 (io), M8 IO_L60N_2 (io), M9 VCCO_2 (power), N2 IO_L90P_2 (io), N3 IO_L90N_2 (io), N4 IO_L89P_2 (io), N5 IO_L89N_2 (io), N6 IO_L88P_2 (io), N7 IO_L88N_2/VREF_2 (io), N8 IO_L60P_2 (io), N9 VCCO_2 (power), P2 IO_L90N_3 (io), P3 IO_L90P_3 (io), P4 IO_L89N_3 (io), P5 IO_L89P_3 (io), P6 IO_L88N_3 (io), P7 IO_L88P_3 (io), P8 IO_L60N_3 (io), P9 VCCO_3 (power), R1 IO_L87N_3/VREF_3 (io), R2 IO_L87P_3 (io), R3 IO_L86N_3 (io), R4 IO_L86P_3 (io), R5 IO_L85N_3 (io), R6 IO_L85P_3 (io), R7 IO_L56N_3 (io), R8 IO_L60P_3 (io), R9 VCCO_3 (power), T1 IO_L59N_3 (io), T2 IO_L59P_3 (io), T3 IO_L58N_3 (io), T4 IO_L58P_3 (io), T5 IO_L57N_3/VREF_3 (io), T6 IO_L57P_3 (io), T7 IO_L56P_3 (io), T8 IO_L55N_3 (io), T9 VCCO_3 (power), U1 IO_L54N_3 (io), U2 VCCO_3 (power), U3 IO_L53N_3 (io), U4 IO_L53P_3 (io), U5 IO_L52N_3 (io), U6 IO_L52P_3 (io), U7 IO_L55P_3 (io), U8 VCCO_3 (power), V1 IO_L54P_3 (io), V2 IO_L51N_3/VREF_3 (io), V3 IO_L51P_3 (io), V4 IO_L50N_3 (io), V5 IO_L50P_3 (io), V6 IO_L49N_3 (io), V7 IO_L49P_3 (io), V8 VCCO_3 (power), W1 IO_L48N_3 (io), W2 IO_L48P_3 (io), W3 IO_L47N_3 (io), W4 IO_L47P_3 (io), W5 IO_L46N_3 (io), W6 IO_L46P_3 (io), Y1 IO_L45N_3/VREF_3 (io), Y2 VCCO_3 (power), Y3 IO_L44N_3 (io), Y4 IO_L44P_3 (io), Y5 IO_L43N_3 (io), Y6 IO_L43P_3 (io)
part C pins: AA7 IO_L03N_4/D2 (io), AA8 IO_L03P_4/D3 (io), AA9 IO_L09P_4/VREF_4 (io), AA10 NC, AA11 NC, AA12 IO_L67N_4 (io), AA13 IO_L73P_4 (io), AA14 IO_L73N_5 (io), AA15 IO_L67P_5 (io), AA16 NC, AA17 NC, AA18 IO_L09N_5/VREF_5 (io), AA19 IO_L03N_5/D4 (io), AA20 IO_L03P_5/D5 (io), AB7 IO_L02N_4/D0 (io), AB8 IO_L06N_4/VRP_4 (io), AB9 IO_L06P_4/VRN_4 (io), AB10 NC, AB11 NC, AB12 IO_L67P_4 (io), AB13 IO_L74N_4/GCLK3S (io), AB14 IO_L74P_5/GCLK4P (io), AB15 IO_L67N_5 (io), AB16 NC, AB17 NC, AB18 IO_L06N_5/VRP_5 (io), AB19 IO_L06P_5/VRN_5 (io), AB20 IO_L02P_5/D7 (io), AC6 IO_L01N_4/DOUT (io), AC7 IO_L02P_4/D1 (io), AC8 IO_L07N_4 (io), AC9 NC, AC10 NC, AC11 NC, AC12 IO_L68N_4 (io), AC13 IO_L74P_4/GCLK2P (io), AC14 IO_L74N_5/GCLK5S (io), AC15 IO_L68P_5 (io), AC16 NC, AC17 NC, AC18 NC, AC19 IO_L07P_5 (io), AC20 IO_L02N_5/D6 (io), AC21 IO_L01P_5/CS_B (io), AD6 IO_L01P_4/INIT_B (io), AD7 VCCO_4 (power), AD8 IO_L07P_4/VREF_4 (io), AD9 NC, AD10 VCCO_4 (power), AD12 IO_L68P_4 (io), AD13 IO_L75N_4/GCLK1S (io), AD14 IO_L75P_5/GCLK6P (io), AD15 IO_L68N_5 (io), AD17 VCCO_5 (power), AD18 NC, AD19 IO_L07N_5/VREF_5 (io), AD20 VCCO_5 (power), AD21 IO_L01N_5/RDWR_B (io), AE8 IO_L08N_4 (io), AE13 IO_L75P_4/GCLK0P (io), AE14 IO_L75N_5/GCLK7S (io), AE19 IO_L08P_5 (io), AF8 IO_L08P_4 (io), AF19 IO_L08N_5 (io), V11 VCCO_4 (power), V12 VCCO_4 (power), V13 VCCO_4 (power), V14 VCCO_5 (power), V15 VCCO_5 (power), V16 VCCO_5 (power), W9 VCCO_4 (power), W10 VCCO_4 (power), W11 NC, W12 IO_L69N_4 (io), W13 IO_L69P_4/VREF_4 (io), W14 IO_L69N_5/VREF_5 (io), W15 IO_L69P_5 (io), W16 NC, W17 VCCO_5 (power), W18 VCCO_5 (power), Y8 IO_L05_4/No_Pair (io), Y9 IO_L09N_4 (io), Y10 NC, Y11 NC, Y12 NC, Y13 IO_L73N_4 (io), Y14 IO_L73P_5 (io), Y15 NC, Y16 NC, Y17 NC, Y18 IO_L09P_5 (io), Y19 IO_L05_5/No_Pair (io)
part D pins: A25 IO_L02N_7 (io), AA22 NC, AA23 NC, AA24 NC, AA25 NC, AA26 IO_L45P_6 (io), AB23 IO_L06P_6 (io), AB24 IO_L06N_6 (io), AB25 NC, AB26 NC, AC24 IO_L02N_6 (io), AC25 IO_L05P_6 (io), AC26 IO_L05N_6 (io), AD23 IO_L02P_6 (io), AD25 IO_L04P_6 (io), AD26 IO_L04N_6 (io), AE24 IO_L01N_6/VRP_6 (io), AE26 IO_L03P_6 (io), AF24 IO_L01P_6/VRN_6 (io), AF25 IO_L03N_6/VREF_6 (io), B26 IO_L02P_7 (io), C23 IO_L01N_7/VRP_7 (io), C25 IO_L03N_7 (io), C26 IO_L03P_7 (io), D24 IO_L01P_7/VRN_7 (io), D25 IO_L04N_7/VREF_7 (io), D26 IO_L04P_7 (io), E23 IO_L05N_7 (io), E24 IO_L05P_7 (io), E25 IO_L06N_7 (io), E26 IO_L06P_7 (io), F22 NC, F23 NC, F24 NC, F25 NC, F26 IO_L45N_7 (io), G21 IO_L43N_7 (io), G22 IO_L43P_7 (io), G23 IO_L44N_7 (io), G24 IO_L44P_7 (io), G25 VCCO_7 (power), G26 IO_L45P_7 (io), H21 IO_L46N_7/VREF_7 (io), H22 IO_L46P_7 (io), H23 IO_L47N_7 (io), H24 IO_L47P_7 (io), H25 IO_L48N_7 (io), H26 IO_L48P_7 (io), J19 VCCO_7 (power), J20 IO_L49N_7 (io), J21 IO_L49P_7 (io), J22 IO_L50N_7 (io), J23 IO_L50P_7 (io), J24 IO_L51N_7 (io), J25 IO_L51P_7 (io), J26 IO_L54N_7 (io), K19 VCCO_7 (power), K20 IO_L55N_7 (io), K21 IO_L52N_7/VREF_7 (io), K22 IO_L52P_7 (io), K23 IO_L53N_7 (io), K24 IO_L53P_7 (io), K25 VCCO_7 (power), K26 IO_L54P_7 (io), L18 VCCO_7 (power), L19 IO_L55P_7 (io), L20 IO_L56N_7 (io), L21 IO_L57N_7 (io), L22 IO_L57P_7 (io), L23 IO_L58N_7/VREF_7 (io), L24 IO_L58P_7 (io), L25 IO_L59N_7 (io), L26 IO_L59P_7 (io), M18 VCCO_7 (power), M19 IO_L60N_7 (io), M20 IO_L56P_7 (io), M21 IO_L85N_7 (io), M22 IO_L85P_7 (io), M23 IO_L86N_7 (io), M24 IO_L86P_7 (io), M25 IO_L87N_7 (io), M26 IO_L87P_7 (io), N18 VCCO_7 (power), N19 IO_L60P_7 (io), N20 IO_L88N_7/VREF_7 (io), N21 IO_L88P_7 (io), N22 IO_L89N_7 (io), N23 IO_L89P_7 (io), N24 IO_L90N_7 (io), N25 IO_L90P_7 (io), P18 VCCO_6 (power), P19 IO_L60N_6 (io), P20 IO_L88P_6 (io), P21 IO_L88N_6 (io), P22 IO_L89P_6 (io), P23 IO_L89N_6 (io), P24 IO_L90P_6 (io), P25 IO_L90N_6 (io), R18 VCCO_6 (power), R19 IO_L60P_6 (io), R20 IO_L56N_6 (io), R21 IO_L85P_6 (io), R22 IO_L85N_6 (io), R23 IO_L86P_6 (io), R24 IO_L86N_6 (io), R25 IO_L87P_6 (io), R26 IO_L87N_6/VREF_6 (io), T18 VCCO_6 (power), T19 IO_L55N_6 (io), T20 IO_L56P_6 (io), T21 IO_L57P_6 (io), T22 IO_L57N_6/VREF_6 (io), T23 IO_L58P_6 (io), T24 IO_L58N_6 (io), T25 IO_L59P_6 (io), T26 IO_L59N_6 (io), U19 VCCO_6 (power), U20 IO_L55P_6 (io), U21 IO_L52P_6 (io), U22 IO_L52N_6 (io), U23 IO_L53P_6 (io), U24 IO_L53N_6 (io), U25 VCCO_6 (power), U26 IO_L54N_6 (io), V19 VCCO_6 (power), V20 IO_L49P_6 (io), V21 IO_L49N_6 (io), V22 IO_L50P_6 (io), V23 IO_L50N_6 (io), V24 IO_L51P_6 (io), V25 IO_L51N_6/VREF_6 (io), V26 IO_L54P_6 (io), W21 IO_L46P_6 (io), W22 IO_L46N_6 (io), W23 IO_L47P_6 (io), W24 IO_L47N_6 (io), W25 IO_L48P_6 (io), W26 IO_L48N_6 (io), Y21 IO_L43P_6 (io), Y22 IO_L43N_6 (io), Y23 IO_L44P_6 (io), Y24 IO_L44N_6 (io), Y25 VCCO_6 (power), Y26 IO_L45N_6/VREF_6 (io)
part E pins: A4 NC, A5 NC, A6 NC, A7 NC, A9 RXNPAD7 (in), A10 RXPPAD7 (in), A11 TXPPAD7 (hiz), A12 TXNPAD7 (hiz), A15 RXNPAD6 (in), A16 RXPPAD6 (in), A17 TXPPAD6 (hiz), A18 TXNPAD6 (hiz), A20 NC, A21 NC, A22 NC, A23 NC, AD5 NC, AD11 GNDA18 (power), AD16 GNDA19 (power), AD22 NC, AE4 NC, AE5 NC, AE6 NC, AE7 NC, AE9 AVCCAUXRX18 (power), AE10 VTRXPAD18 (power), AE11 AVCCAUXTX18 (power), AE12 VTTXPAD18 (power), AE15 AVCCAUXRX19 (power), AE16 VTRXPAD19 (power), AE17 AVCCAUXTX19 (power), AE18 VTTXPAD19 (power), AE20 NC, AE21 NC, AE22 NC, AE23 NC, AF4 NC, AF5 NC, AF6 NC, AF7 NC, AF9 RXNPAD18 (in), AF10 RXPPAD18 (in), AF11 TXPPAD18 (hiz), AF12 TXNPAD18 (hiz), AF15 RXNPAD19 (in), AF16 RXPPAD19 (in), AF17 TXPPAD19 (hiz), AF18 TXNPAD19 (hiz), AF20 NC, AF21 NC, AF22 NC, AF23 NC, B4 NC, B5 NC, B6 NC, B7 NC, B9 AVCCAUXRX7 (power), B10 VTRXPAD7 (power), B11 AVCCAUXTX7 (power), B12 VTTXPAD7 (power), B15 AVCCAUXRX6 (power), B16 VTRXPAD6 (power), B17 AVCCAUXTX6 (power), B18 VTTXPAD6 (power), B20 NC, B21 NC, B22 NC, B23 NC, C5 NC, C11 GNDA7 (power), C16 GNDA6 (power), C22 NC
part F pins: A13 VCCAUX (power), A14 VCCAUX (power), AB6 DONE (io), AB21 M2 (in), AC5 PWRDWN_B (in), AC22 M0 (in), AE2 VCCAUX (power), AE25 VCCAUX (power), AF13 VCCAUX (power), AF14 VCCAUX (power), B2 VCCAUX (power), B25 VCCAUX (power), D5 RSVD, D22 PROG_B (in), E6 VBATT (power), E21 HSWAP_EN (in), F7 TMS (in), F20 DXP, G8 TCK (in), G19 DXN, H7 TDO (out), H8 VCCINT (power), H19 VCCINT (power), H20 TDI (in), J9 VCCINT (power), J10 VCCINT (power), J17 VCCINT (power), J18 VCCINT (power), K9 VCCINT (power), K11 VCCINT (power), K16 VCCINT (power), K18 VCCINT (power), L10 VCCINT (power), L17 VCCINT (power), N1 VCCAUX (power), N26 VCCAUX (power), P1 VCCAUX (power), P26 VCCAUX (power), T10 VCCINT (power), T17 VCCINT (power), U9 VCCINT (power), U11 VCCINT (power), U16 VCCINT (power), U18 VCCINT (power), V9 VCCINT (power), V10 VCCINT (power), V17 VCCINT (power), V18 VCCINT (power), W7 CCLK (io), W8 VCCINT (power), W19 VCCINT (power), W20 M1 (in)
part G pins: AA6 GND (power), AA21 GND (power), AB5 GND (power), AB22 GND (power), AC4 GND (power), AC23 GND (power), AD3 GND (power), AD24 GND (power), C3 GND (power), C24 GND (power), D4 GND (power), D23 GND (power), E5 GND (power), E22 GND (power), F6 GND (power), F21 GND (power), G7 GND (power), G20 GND (power), K10 GND (power), K12 GND (power), K13 GND (power), K14 GND (power), K15 GND (power), K17 GND (power), L11 GND (power), L12 GND (power), L13 GND (power), L14 GND (power), L15 GND (power), L16 GND (power), M10 GND (power), M11 GND (power), M12 GND (power), M13 GND (power), M14 GND (power), M15 GND (power), M16 GND (power), M17 GND (power), N10 GND (power), N11 GND (power), N12 GND (power), N13 GND (power), N14 GND (power), N15 GND (power), N16 GND (power), N17 GND (power), P10 GND (power), P11 GND (power), P12 GND (power), P13 GND (power), P14 GND (power), P15 GND (power), P16 GND (power), P17 GND (power), R10 GND (power), R11 GND (power), R12 GND (power), R13 GND (power), R14 GND (power), R15 GND (power), R16 GND (power), R17 GND (power), T11 GND (power), T12 GND (power), T13 GND (power), T14 GND (power), T15 GND (power), T16 GND (power), U10 GND (power), U12 GND (power), U13 GND (power), U14 GND (power), U15 GND (power), U17 GND (power), Y7 GND (power), Y20 GND (power)
part A text: BANK 0; BANK 1
part B text: BANK 2; BANK 3
part C text: BANK 4; BANK 5
part D text: BANK 6; BANK 7
part E text: TRANSCEIVER CORE

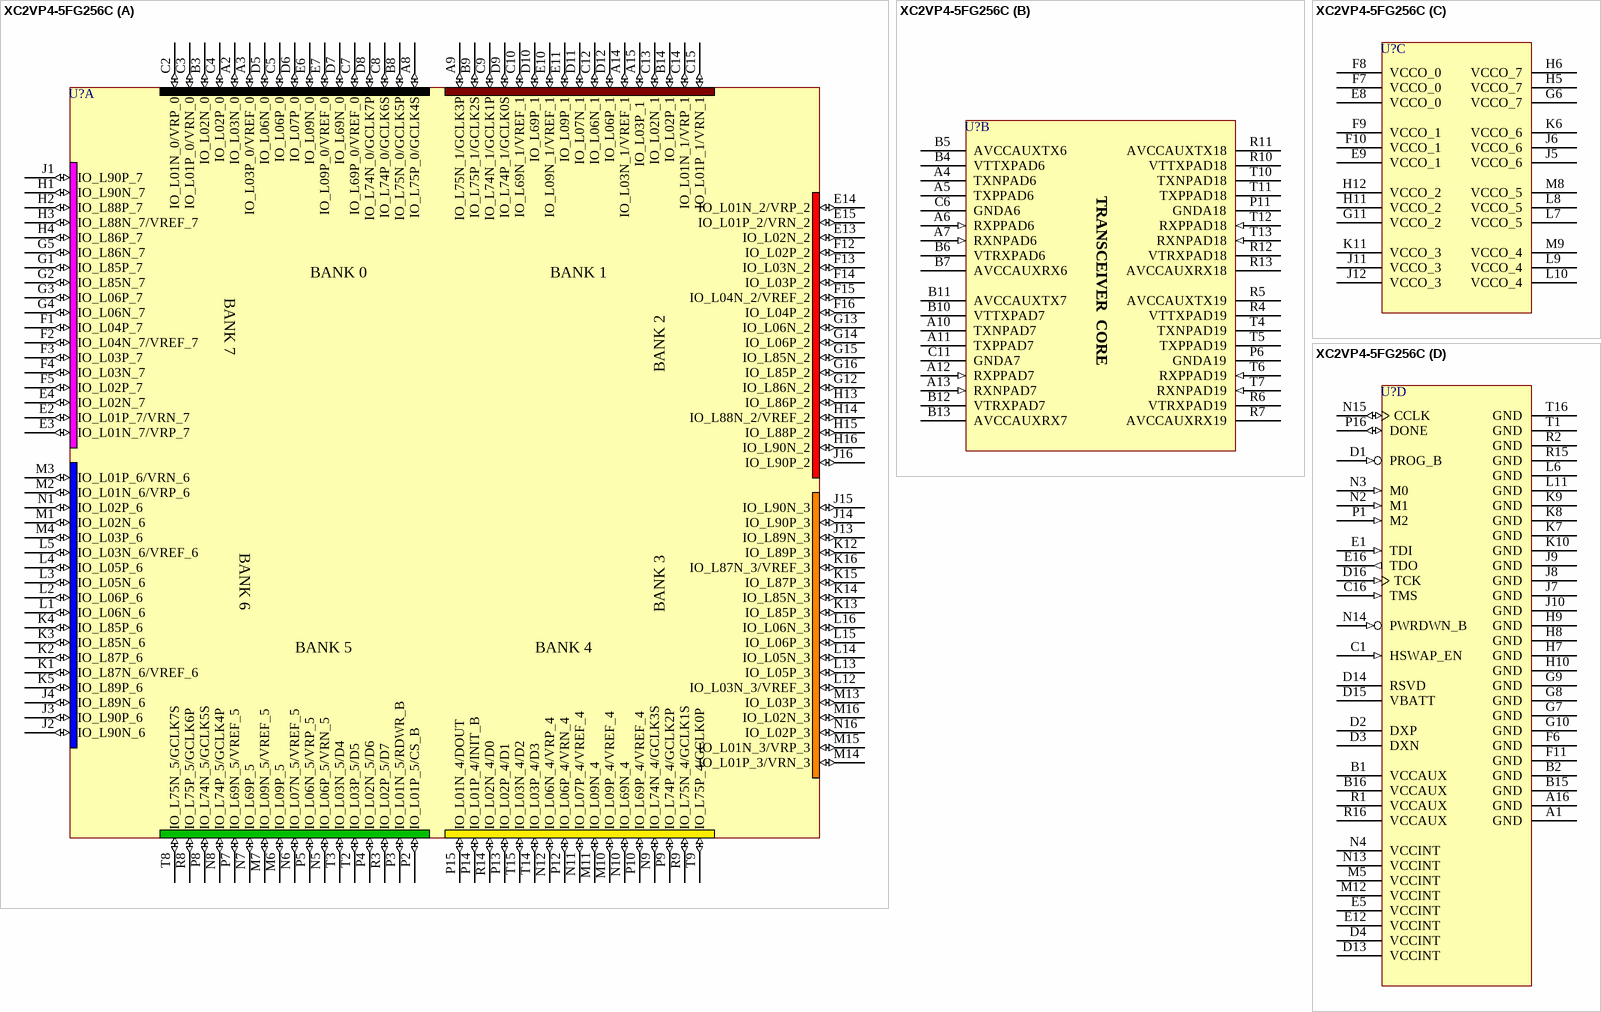
[diagram p34: symbol XC2VP4-5FG256C]

## XC2VP4-5FG256C
designator U?
Virtex-II Pro Platform FPGA, 256-Ball FBGA, Speed Grade 5, 140 User I/Os, Commercial Grade; ManufacturerRecommends: Solder pad diameter 0.45mm SMD; PackageDocument: ver1.1, Apr-2001; User_I/Os: 140; Published: 17-Jul-2002; LatestRevisionDate: 16-Apr-2003; LatestRevisionNote: Minor layout changes, TXN/TXP Pins changed from 'Output' to 'HiZ'.  'PROG_B' pin types changed from IO to Input.; DatasheetDocument: 22-Apr-2004; PackageReference: FG256; Publisher: Altium Limited; Code_JEDEC: MO-151-AAF-1; Code_IPC: PBGA 17X17 FE256
footprint FG256 (256-Ball Fine Pitch Ball Grid Array (FG256))
3D model XC2VP4-FG256 (256-Ball Fine Pitch Ball Grid Array (FG256))
signal-integrity model XC2VP4_FG256 (Virtex-II Pro)
part A pins: A2 IO_L03N_0 (io), A3 IO_L03P_0/VREF_0 (io), A8 IO_L75P_0/GCLK4S (io), A9 IO_L75N_1/GCLK3P (io), A14 IO_L03N_1/VREF_1 (io), A15 IO_L03P_1 (io), B3 IO_L02N_0 (io), B8 IO_L75N_0/GCLK5P (io), B9 IO_L75P_1/GCLK2S (io), B14 IO_L02P_1 (io), C2 IO_L01N_0/VRP_0 (io), C3 IO_L01P_0/VRN_0 (io), C4 IO_L02P_0 (io), C5 IO_L06P_0 (io), C7 IO_L69P_0/VREF_0 (io), C8 IO_L74P_0/GCLK6S (io), C9 IO_L74N_1/GCLK1P (io), C10 IO_L69N_1/VREF_1 (io), C12 IO_L06N_1 (io), C13 IO_L02N_1 (io), C14 IO_L01N_1/VRP_1 (io), C15 IO_L01P_1/VRN_1 (io), D5 IO_L06N_0 (io), D6 IO_L07P_0 (io), D7 IO_L69N_0 (io), D8 IO_L74N_0/GCLK7P (io), D9 IO_L74P_1/GCLK0S (io), D10 IO_L69P_1 (io), D11 IO_L07N_1 (io), D12 IO_L06P_1 (io), E2 IO_L01P_7/VRN_7 (io), E3 IO_L01N_7/VRP_7 (io), E4 IO_L02N_7 (io), E6 IO_L09N_0 (io), E7 IO_L09P_0/VREF_0 (io), E10 IO_L09N_1/VREF_1 (io), E11 IO_L09P_1 (io), E13 IO_L02N_2 (io), E14 IO_L01N_2/VRP_2 (io), E15 IO_L01P_2/VRN_2 (io), F1 IO_L04P_7 (io), F2 IO_L04N_7/VREF_7 (io), F3 IO_L03P_7 (io), F4 IO_L03N_7 (io), F5 IO_L02P_7 (io), F12 IO_L02P_2 (io), F13 IO_L03N_2 (io), F14 IO_L03P_2 (io), F15 IO_L04N_2/VREF_2 (io), F16 IO_L04P_2 (io), G1 IO_L85P_7 (io), G2 IO_L85N_7 (io), G3 IO_L06P_7 (io), G4 IO_L06N_7 (io), G5 IO_L86N_7 (io), G12 IO_L86N_2 (io), G13 IO_L06N_2 (io), G14 IO_L06P_2 (io), G15 IO_L85N_2 (io), G16 IO_L85P_2 (io), H1 IO_L90N_7 (io), H2 IO_L88P_7 (io), H3 IO_L88N_7/VREF_7 (io), H4 IO_L86P_7 (io), H13 IO_L86P_2 (io), H14 IO_L88N_2/VREF_2 (io), H15 IO_L88P_2 (io), H16 IO_L90N_2 (io), J1 IO_L90P_7 (io), J2 IO_L90N_6 (io), J3 IO_L90P_6 (io), J4 IO_L89N_6 (io), J13 IO_L89N_3 (io), J14 IO_L90P_3 (io), J15 IO_L90N_3 (io), J16 IO_L90P_2 (io), K1 IO_L87N_6/VREF_6 (io), K2 IO_L87P_6 (io), K3 IO_L85N_6 (io), K4 IO_L85P_6 (io), K5 IO_L89P_6 (io), K12 IO_L89P_3 (io), K13 IO_L85P_3 (io), K14 IO_L85N_3 (io), K15 IO_L87P_3 (io), K16 IO_L87N_3/VREF_3 (io), L1 IO_L06N_6 (io), L2 IO_L06P_6 (io), L3 IO_L05N_6 (io), L4 IO_L05P_6 (io), L5 IO_L03N_6/VREF_6 (io), L12 IO_L03N_3/VREF_3 (io), L13 IO_L05P_3 (io), L14 IO_L05N_3 (io), L15 IO_L06P_3 (io), L16 IO_L06N_3 (io), M1 IO_L02N_6 (io), M2 IO_L01N_6/VRP_6 (io), M3 IO_L01P_6/VRN_6 (io), M4 IO_L03P_6 (io), M6 IO_L09P_5 (io), M7 IO_L09N_5/VREF_5 (io), M10 IO_L09P_4/VREF_4 (io), M11 IO_L09N_4 (io), M13 IO_L03P_3 (io), M14 IO_L01P_3/VRN_3 (io), M15 IO_L01N_3/VRP_3 (io), M16 IO_L02N_3 (io), N1 IO_L02P_6 (io), N5 IO_L06P_5/VRN_5 (io), N6 IO_L07N_5/VREF_5 (io), N7 IO_L69P_5 (io), N8 IO_L74P_5/GCLK4P (io), N9 IO_L74N_4/GCLK3S (io), N10 IO_L69N_4 (io), N11 IO_L07P_4/VREF_4 (io), N12 IO_L06N_4/VRP_4 (io), N16 IO_L02P_3 (io), P2 IO_L01P_5/CS_B (io), P3 IO_L01N_5/RDWR_B (io), P4 IO_L02N_5/D6 (io), P5 IO_L06N_5/VRP_5 (io), P7 IO_L69N_5/VREF_5 (io), P8 IO_L74N_5/GCLK5S (io), P9 IO_L74P_4/GCLK2P (io), P10 IO_L69P_4/VREF_4 (io), P12 IO_L06P_4/VRN_4 (io), P13 IO_L02P_4/D1 (io), P14 IO_L01P_4/INIT_B (io), P15 IO_L01N_4/DOUT (io), R3 IO_L02P_5/D7 (io), R8 IO_L75P_5/GCLK6P (io), R9 IO_L75N_4/GCLK1S (io), R14 IO_L02N_4/D0 (io), T2 IO_L03P_5/D5 (io), T3 IO_L03N_5/D4 (io), T8 IO_L75N_5/GCLK7S (io), T9 IO_L75P_4/GCLK0P (io), T14 IO_L03P_4/D3 (io), T15 IO_L03N_4/D2 (io)
part B pins: A4 TXNPAD6 (hiz), A5 TXPPAD6 (hiz), A6 RXPPAD6 (in), A7 RXNPAD6 (in), A10 TXNPAD7 (hiz), A11 TXPPAD7 (hiz), A12 RXPPAD7 (in), A13 RXNPAD7 (in), B4 VTTXPAD6 (power), B5 AVCCAUXTX6 (power), B6 VTRXPAD6 (power), B7 AVCCAUXRX6 (power), B10 VTTXPAD7 (power), B11 AVCCAUXTX7 (power), B12 VTRXPAD7 (power), B13 AVCCAUXRX7 (power), C6 GNDA6 (power), C11 GNDA7 (power), P6 GNDA19 (power), P11 GNDA18 (power), R4 VTTXPAD19 (power), R5 AVCCAUXTX19 (power), R6 VTRXPAD19 (power), R7 AVCCAUXRX19 (power), R10 VTTXPAD18 (power), R11 AVCCAUXTX18 (power), R12 VTRXPAD18 (power), R13 AVCCAUXRX18 (power), T4 TXNPAD19 (hiz), T5 TXPPAD19 (hiz), T6 RXPPAD19 (in), T7 RXNPAD19 (in), T10 TXNPAD18 (hiz), T11 TXPPAD18 (hiz), T12 RXPPAD18 (in), T13 RXNPAD18 (in)
part C pins: E8 VCCO_0 (power), E9 VCCO_1 (power), F7 VCCO_0 (power), F8 VCCO_0 (power), F9 VCCO_1 (power), F10 VCCO_1 (power), G6 VCCO_7 (power), G11 VCCO_2 (power), H5 VCCO_7 (power), H6 VCCO_7 (power), H11 VCCO_2 (power), H12 VCCO_2 (power), J5 VCCO_6 (power), J6 VCCO_6 (power), J11 VCCO_3 (power), J12 VCCO_3 (power), K6 VCCO_6 (power), K11 VCCO_3 (power), L7 VCCO_5 (power), L8 VCCO_5 (power), L9 VCCO_4 (power), L10 VCCO_4 (power), M8 VCCO_5 (power), M9 VCCO_4 (power)
part D pins: A1 GND (power), A16 GND (power), B1 VCCAUX (power), B2 GND (power), B15 GND (power), B16 VCCAUX (power), C1 HSWAP_EN (in), C16 TMS (in), D1 PROG_B (in), D2 DXP, D3 DXN, D4 VCCINT (power), D13 VCCINT (power), D14 RSVD, D15 VBATT (power), D16 TCK (in), E1 TDI (in), E5 VCCINT (power), E12 VCCINT (power), E16 TDO (out), F6 GND (power), F11 GND (power), G7 GND (power), G8 GND (power), G9 GND (power), G10 GND (power), H7 GND (power), H8 GND (power), H9 GND (power), H10 GND (power), J7 GND (power), J8 GND (power), J9 GND (power), J10 GND (power), K7 GND (power), K8 GND (power), K9 GND (power), K10 GND (power), L6 GND (power), L11 GND (power), M5 VCCINT (power), M12 VCCINT (power), N2 M1 (in), N3 M0 (in), N4 VCCINT (power), N13 VCCINT (power), N14 PWRDWN_B (in), N15 CCLK (io), P1 M2 (in), P16 DONE (io), R1 VCCAUX (power), R2 GND (power), R15 GND (power), R16 VCCAUX (power), T1 GND (power), T16 GND (power)
part A text: BANK 0; BANK 1; BANK 7; BANK 2; BANK 6; BANK 3; BANK 5; BANK 4
part B text: TRANSCEIVER  CORE

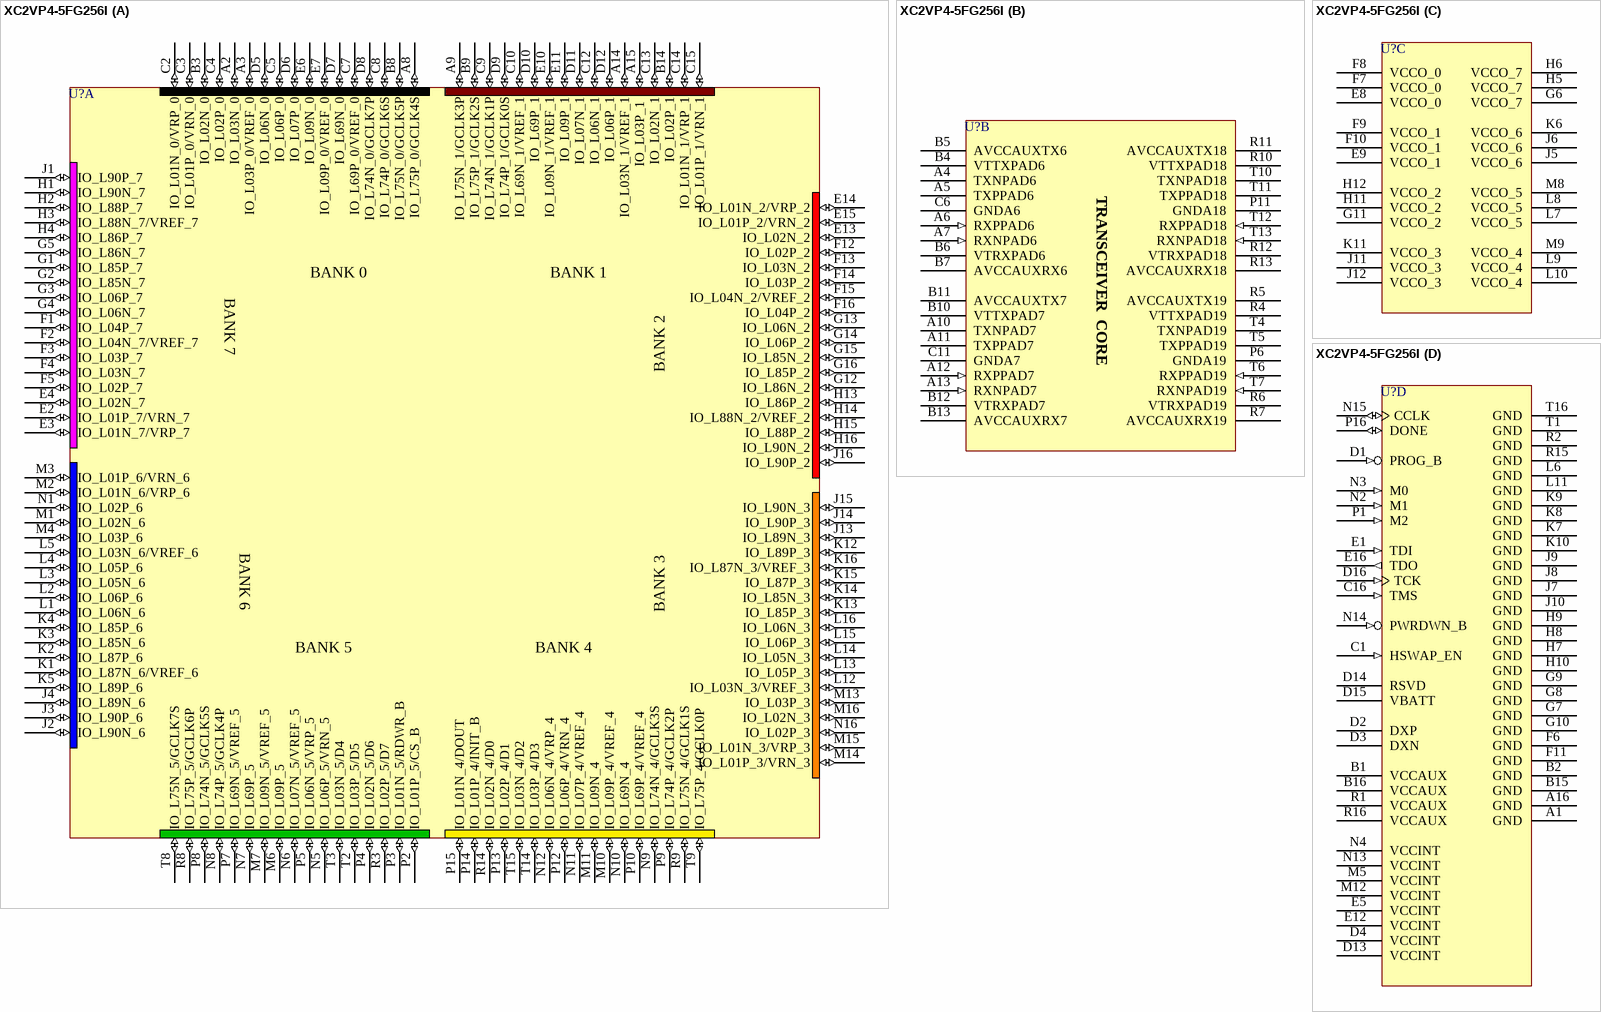
[diagram p35: symbol XC2VP4-5FG256I]

## XC2VP4-5FG256I
designator U?
Virtex-II Pro Platform FPGA, 256-Ball FBGA, Speed Grade 5, 140 User I/Os, Industrial Grade; ManufacturerRecommends: Solder pad diameter 0.45mm SMD; PackageDocument: ver1.1, Apr-2001; User_I/Os: 140; Published: 17-Jul-2002; LatestRevisionDate: 16-Apr-2003; LatestRevisionNote: Minor layout changes, TXN/TXP Pins changed from 'Output' to 'HiZ'.  'PROG_B' pin types changed from IO to Input.; DatasheetDocument: 22-Apr-2004; PackageReference: FG256; Publisher: Altium Limited; Code_JEDEC: MO-151-AAF-1; Code_IPC: PBGA 17X17 FE256
footprint FG256 (256-Ball Fine Pitch Ball Grid Array (FG256))
3D model XC2VP4-FG256 (256-Ball Fine Pitch Ball Grid Array (FG256))
signal-integrity model XC2VP4_FG256 (Virtex-II Pro)
part A pins: A2 IO_L03N_0 (io), A3 IO_L03P_0/VREF_0 (io), A8 IO_L75P_0/GCLK4S (io), A9 IO_L75N_1/GCLK3P (io), A14 IO_L03N_1/VREF_1 (io), A15 IO_L03P_1 (io), B3 IO_L02N_0 (io), B8 IO_L75N_0/GCLK5P (io), B9 IO_L75P_1/GCLK2S (io), B14 IO_L02P_1 (io), C2 IO_L01N_0/VRP_0 (io), C3 IO_L01P_0/VRN_0 (io), C4 IO_L02P_0 (io), C5 IO_L06P_0 (io), C7 IO_L69P_0/VREF_0 (io), C8 IO_L74P_0/GCLK6S (io), C9 IO_L74N_1/GCLK1P (io), C10 IO_L69N_1/VREF_1 (io), C12 IO_L06N_1 (io), C13 IO_L02N_1 (io), C14 IO_L01N_1/VRP_1 (io), C15 IO_L01P_1/VRN_1 (io), D5 IO_L06N_0 (io), D6 IO_L07P_0 (io), D7 IO_L69N_0 (io), D8 IO_L74N_0/GCLK7P (io), D9 IO_L74P_1/GCLK0S (io), D10 IO_L69P_1 (io), D11 IO_L07N_1 (io), D12 IO_L06P_1 (io), E2 IO_L01P_7/VRN_7 (io), E3 IO_L01N_7/VRP_7 (io), E4 IO_L02N_7 (io), E6 IO_L09N_0 (io), E7 IO_L09P_0/VREF_0 (io), E10 IO_L09N_1/VREF_1 (io), E11 IO_L09P_1 (io), E13 IO_L02N_2 (io), E14 IO_L01N_2/VRP_2 (io), E15 IO_L01P_2/VRN_2 (io), F1 IO_L04P_7 (io), F2 IO_L04N_7/VREF_7 (io), F3 IO_L03P_7 (io), F4 IO_L03N_7 (io), F5 IO_L02P_7 (io), F12 IO_L02P_2 (io), F13 IO_L03N_2 (io), F14 IO_L03P_2 (io), F15 IO_L04N_2/VREF_2 (io), F16 IO_L04P_2 (io), G1 IO_L85P_7 (io), G2 IO_L85N_7 (io), G3 IO_L06P_7 (io), G4 IO_L06N_7 (io), G5 IO_L86N_7 (io), G12 IO_L86N_2 (io), G13 IO_L06N_2 (io), G14 IO_L06P_2 (io), G15 IO_L85N_2 (io), G16 IO_L85P_2 (io), H1 IO_L90N_7 (io), H2 IO_L88P_7 (io), H3 IO_L88N_7/VREF_7 (io), H4 IO_L86P_7 (io), H13 IO_L86P_2 (io), H14 IO_L88N_2/VREF_2 (io), H15 IO_L88P_2 (io), H16 IO_L90N_2 (io), J1 IO_L90P_7 (io), J2 IO_L90N_6 (io), J3 IO_L90P_6 (io), J4 IO_L89N_6 (io), J13 IO_L89N_3 (io), J14 IO_L90P_3 (io), J15 IO_L90N_3 (io), J16 IO_L90P_2 (io), K1 IO_L87N_6/VREF_6 (io), K2 IO_L87P_6 (io), K3 IO_L85N_6 (io), K4 IO_L85P_6 (io), K5 IO_L89P_6 (io), K12 IO_L89P_3 (io), K13 IO_L85P_3 (io), K14 IO_L85N_3 (io), K15 IO_L87P_3 (io), K16 IO_L87N_3/VREF_3 (io), L1 IO_L06N_6 (io), L2 IO_L06P_6 (io), L3 IO_L05N_6 (io), L4 IO_L05P_6 (io), L5 IO_L03N_6/VREF_6 (io), L12 IO_L03N_3/VREF_3 (io), L13 IO_L05P_3 (io), L14 IO_L05N_3 (io), L15 IO_L06P_3 (io), L16 IO_L06N_3 (io), M1 IO_L02N_6 (io), M2 IO_L01N_6/VRP_6 (io), M3 IO_L01P_6/VRN_6 (io), M4 IO_L03P_6 (io), M6 IO_L09P_5 (io), M7 IO_L09N_5/VREF_5 (io), M10 IO_L09P_4/VREF_4 (io), M11 IO_L09N_4 (io), M13 IO_L03P_3 (io), M14 IO_L01P_3/VRN_3 (io), M15 IO_L01N_3/VRP_3 (io), M16 IO_L02N_3 (io), N1 IO_L02P_6 (io), N5 IO_L06P_5/VRN_5 (io), N6 IO_L07N_5/VREF_5 (io), N7 IO_L69P_5 (io), N8 IO_L74P_5/GCLK4P (io), N9 IO_L74N_4/GCLK3S (io), N10 IO_L69N_4 (io), N11 IO_L07P_4/VREF_4 (io), N12 IO_L06N_4/VRP_4 (io), N16 IO_L02P_3 (io), P2 IO_L01P_5/CS_B (io), P3 IO_L01N_5/RDWR_B (io), P4 IO_L02N_5/D6 (io), P5 IO_L06N_5/VRP_5 (io), P7 IO_L69N_5/VREF_5 (io), P8 IO_L74N_5/GCLK5S (io), P9 IO_L74P_4/GCLK2P (io), P10 IO_L69P_4/VREF_4 (io), P12 IO_L06P_4/VRN_4 (io), P13 IO_L02P_4/D1 (io), P14 IO_L01P_4/INIT_B (io), P15 IO_L01N_4/DOUT (io), R3 IO_L02P_5/D7 (io), R8 IO_L75P_5/GCLK6P (io), R9 IO_L75N_4/GCLK1S (io), R14 IO_L02N_4/D0 (io), T2 IO_L03P_5/D5 (io), T3 IO_L03N_5/D4 (io), T8 IO_L75N_5/GCLK7S (io), T9 IO_L75P_4/GCLK0P (io), T14 IO_L03P_4/D3 (io), T15 IO_L03N_4/D2 (io)
part B pins: A4 TXNPAD6 (hiz), A5 TXPPAD6 (hiz), A6 RXPPAD6 (in), A7 RXNPAD6 (in), A10 TXNPAD7 (hiz), A11 TXPPAD7 (hiz), A12 RXPPAD7 (in), A13 RXNPAD7 (in), B4 VTTXPAD6 (power), B5 AVCCAUXTX6 (power), B6 VTRXPAD6 (power), B7 AVCCAUXRX6 (power), B10 VTTXPAD7 (power), B11 AVCCAUXTX7 (power), B12 VTRXPAD7 (power), B13 AVCCAUXRX7 (power), C6 GNDA6 (power), C11 GNDA7 (power), P6 GNDA19 (power), P11 GNDA18 (power), R4 VTTXPAD19 (power), R5 AVCCAUXTX19 (power), R6 VTRXPAD19 (power), R7 AVCCAUXRX19 (power), R10 VTTXPAD18 (power), R11 AVCCAUXTX18 (power), R12 VTRXPAD18 (power), R13 AVCCAUXRX18 (power), T4 TXNPAD19 (hiz), T5 TXPPAD19 (hiz), T6 RXPPAD19 (in), T7 RXNPAD19 (in), T10 TXNPAD18 (hiz), T11 TXPPAD18 (hiz), T12 RXPPAD18 (in), T13 RXNPAD18 (in)
part C pins: E8 VCCO_0 (power), E9 VCCO_1 (power), F7 VCCO_0 (power), F8 VCCO_0 (power), F9 VCCO_1 (power), F10 VCCO_1 (power), G6 VCCO_7 (power), G11 VCCO_2 (power), H5 VCCO_7 (power), H6 VCCO_7 (power), H11 VCCO_2 (power), H12 VCCO_2 (power), J5 VCCO_6 (power), J6 VCCO_6 (power), J11 VCCO_3 (power), J12 VCCO_3 (power), K6 VCCO_6 (power), K11 VCCO_3 (power), L7 VCCO_5 (power), L8 VCCO_5 (power), L9 VCCO_4 (power), L10 VCCO_4 (power), M8 VCCO_5 (power), M9 VCCO_4 (power)
part D pins: A1 GND (power), A16 GND (power), B1 VCCAUX (power), B2 GND (power), B15 GND (power), B16 VCCAUX (power), C1 HSWAP_EN (in), C16 TMS (in), D1 PROG_B (in), D2 DXP, D3 DXN, D4 VCCINT (power), D13 VCCINT (power), D14 RSVD, D15 VBATT (power), D16 TCK (in), E1 TDI (in), E5 VCCINT (power), E12 VCCINT (power), E16 TDO (out), F6 GND (power), F11 GND (power), G7 GND (power), G8 GND (power), G9 GND (power), G10 GND (power), H7 GND (power), H8 GND (power), H9 GND (power), H10 GND (power), J7 GND (power), J8 GND (power), J9 GND (power), J10 GND (power), K7 GND (power), K8 GND (power), K9 GND (power), K10 GND (power), L6 GND (power), L11 GND (power), M5 VCCINT (power), M12 VCCINT (power), N2 M1 (in), N3 M0 (in), N4 VCCINT (power), N13 VCCINT (power), N14 PWRDWN_B (in), N15 CCLK (io), P1 M2 (in), P16 DONE (io), R1 VCCAUX (power), R2 GND (power), R15 GND (power), R16 VCCAUX (power), T1 GND (power), T16 GND (power)
part A text: BANK 0; BANK 1; BANK 7; BANK 2; BANK 6; BANK 3; BANK 5; BANK 4
part B text: TRANSCEIVER  CORE

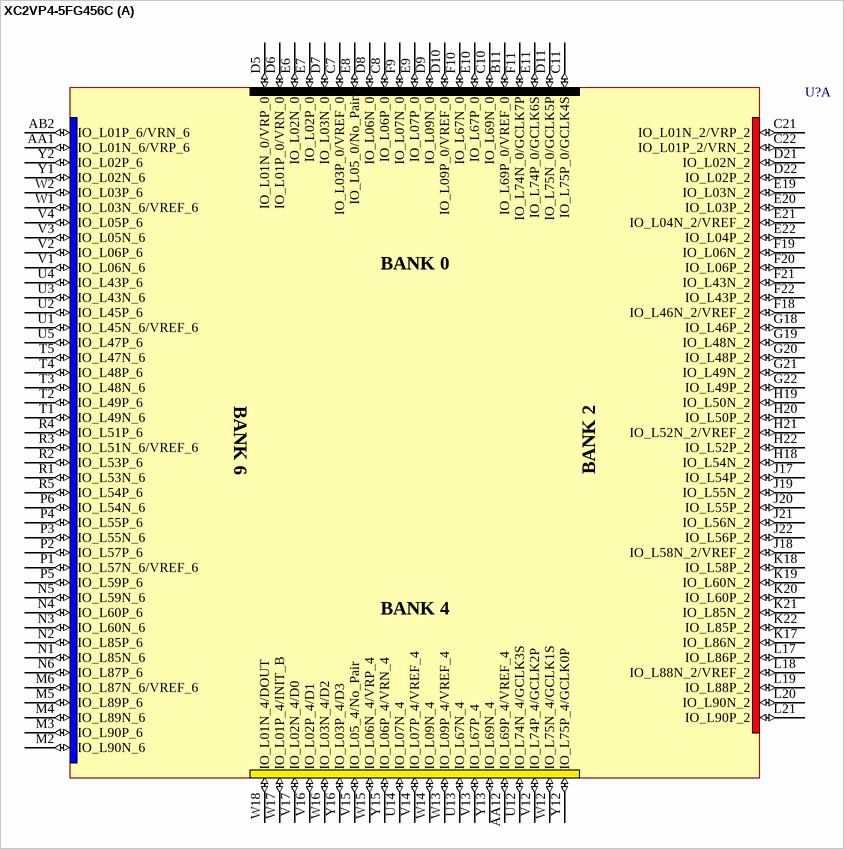
[diagram p36: symbol XC2VP4-5FG456C]

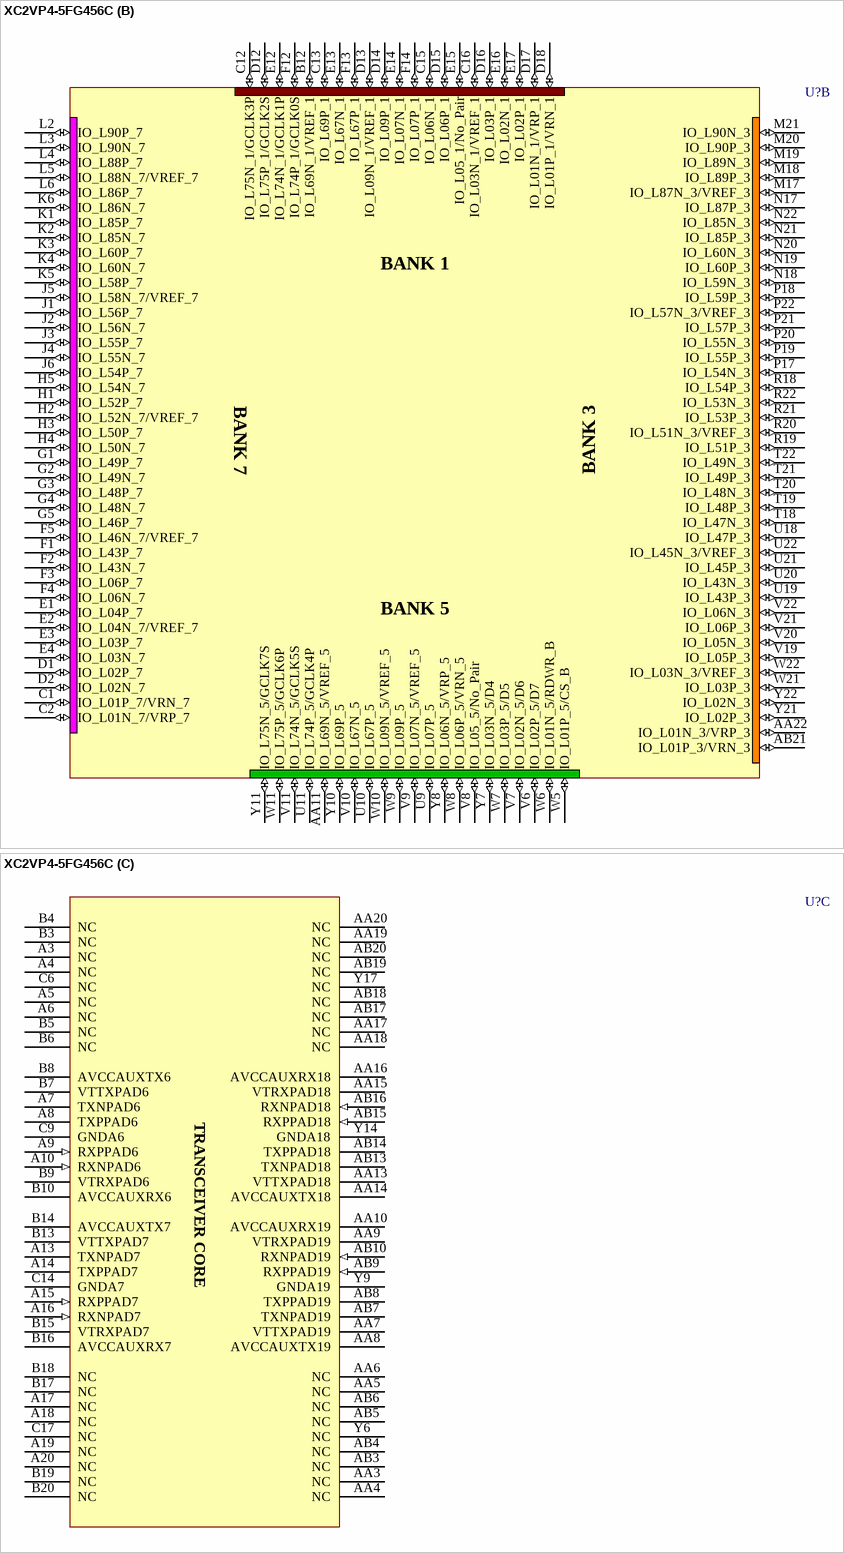
[diagram p37: symbol XC2VP4-5FG456C]

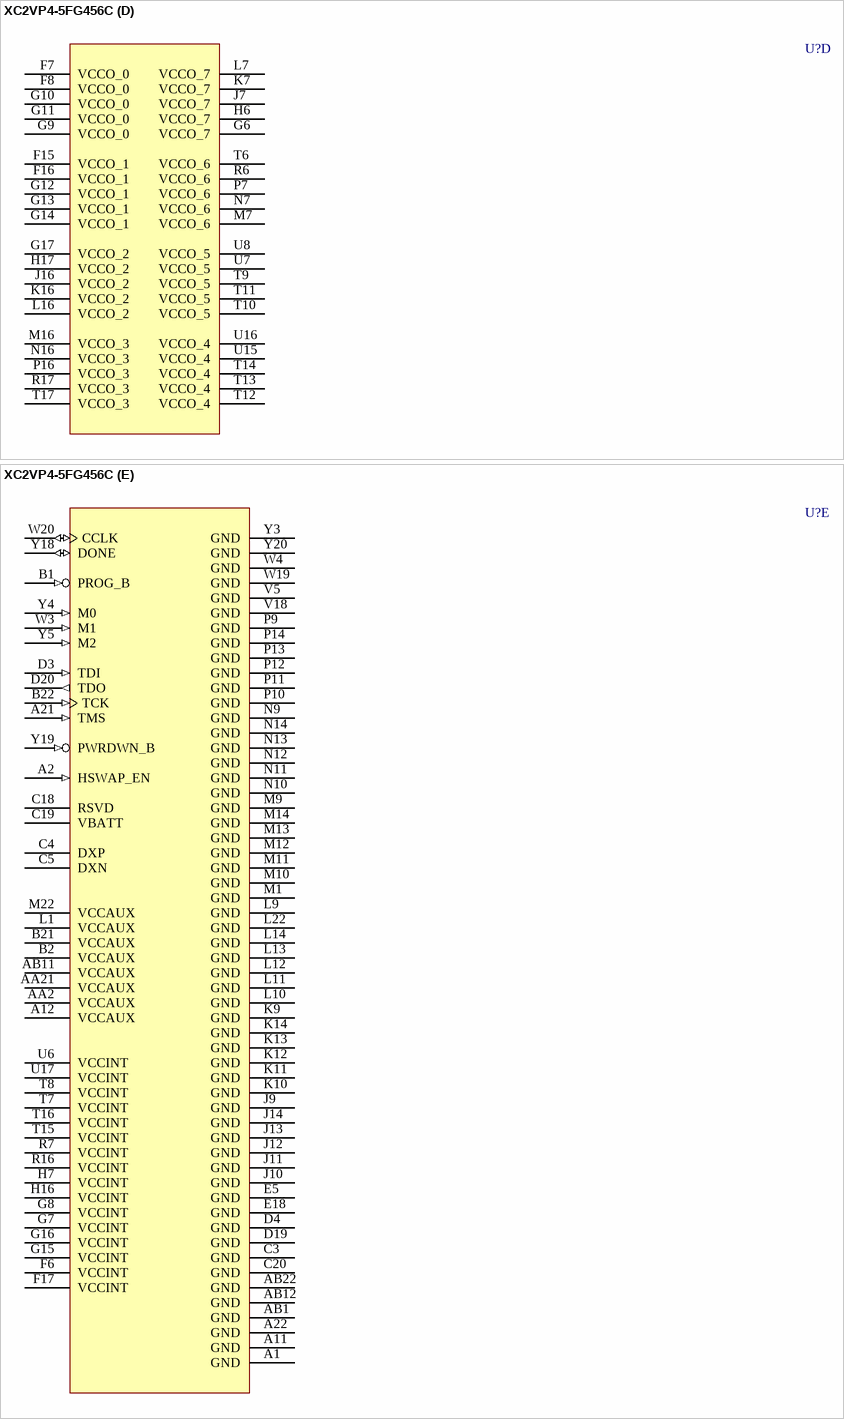
[diagram p38: symbol XC2VP4-5FG456C]

## XC2VP4-5FG456C
designator U?
Virtex-II Pro Platform FPGA, 456-Ball FBGA, Speed Grade 5, 248 User I/Os, Commercial Grade; ManufacturerRecommends: Solder pad diameter 0.45mm SMD; PackageDocument: ver1.1, Apr-2001; User_I/Os: 248; Published: 17-Jul-2002; LatestRevisionDate: 16-Apr-2003; LatestRevisionNote: Minor layout changes, TXN/TXP Pins changed from 'Output' to 'HiZ'.  'PROG_B' pin types changed from IO to Input.; DatasheetDocument: 22-Apr-2004; PackageReference: FG456; Publisher: Altium Limited; Code_JEDEC: MO-151-AAJ-1
footprint FG456 (456-Ball Fine Pitch Ball Grid Array (FG456))
3D model XC2VP4-FG456 (456-Ball Fine Pitch Ball Grid Array (FG456))
signal-integrity model XC2VP4_FG456 (Virtex-II Pro)
part A pins: AA1 IO_L01N_6/VRP_6 (io), AA12 IO_L69P_4/VREF_4 (io), AB2 IO_L01P_6/VRN_6 (io), B11 IO_L69P_0/VREF_0 (io), C7 IO_L03P_0/VREF_0 (io), C8 IO_L06P_0 (io), C10 IO_L69N_0 (io), C11 IO_L75P_0/GCLK4S (io), C21 IO_L01N_2/VRP_2 (io), C22 IO_L01P_2/VRN_2 (io), D5 IO_L01N_0/VRP_0 (io), D6 IO_L01P_0/VRN_0 (io), D7 IO_L03N_0 (io), D8 IO_L06N_0 (io), D9 IO_L09N_0 (io), D10 IO_L09P_0/VREF_0 (io), D11 IO_L75N_0/GCLK5P (io), D21 IO_L02N_2 (io), D22 IO_L02P_2 (io), E6 IO_L02N_0 (io), E7 IO_L02P_0 (io), E8 IO_L05_0/No_Pair (io), E9 IO_L07P_0 (io), E10 IO_L67P_0 (io), E11 IO_L74P_0/GCLK6S (io), E19 IO_L03N_2 (io), E20 IO_L03P_2 (io), E21 IO_L04N_2/VREF_2 (io), E22 IO_L04P_2 (io), F9 IO_L07N_0 (io), F10 IO_L67N_0 (io), F11 IO_L74N_0/GCLK7P (io), F18 IO_L46N_2/VREF_2 (io), F19 IO_L06N_2 (io), F20 IO_L06P_2 (io), F21 IO_L43N_2 (io), F22 IO_L43P_2 (io), G18 IO_L46P_2 (io), G19 IO_L48N_2 (io), G20 IO_L48P_2 (io), G21 IO_L49N_2 (io), G22 IO_L49P_2 (io), H18 IO_L54N_2 (io), H19 IO_L50N_2 (io), H20 IO_L50P_2 (io), H21 IO_L52N_2/VREF_2 (io), H22 IO_L52P_2 (io), J17 IO_L54P_2 (io), J18 IO_L58N_2/VREF_2 (io), J19 IO_L55N_2 (io), J20 IO_L55P_2 (io), J21 IO_L56N_2 (io), J22 IO_L56P_2 (io), K17 IO_L86N_2 (io), K18 IO_L58P_2 (io), K19 IO_L60N_2 (io), K20 IO_L60P_2 (io), K21 IO_L85N_2 (io), K22 IO_L85P_2 (io), L17 IO_L86P_2 (io), L18 IO_L88N_2/VREF_2 (io), L19 IO_L88P_2 (io), L20 IO_L90N_2 (io), L21 IO_L90P_2 (io), M2 IO_L90N_6 (io), M3 IO_L90P_6 (io), M4 IO_L89N_6 (io), M5 IO_L89P_6 (io), M6 IO_L87N_6/VREF_6 (io), N1 IO_L85N_6 (io), N2 IO_L85P_6 (io), N3 IO_L60N_6 (io), N4 IO_L60P_6 (io), N5 IO_L59N_6 (io), N6 IO_L87P_6 (io), P1 IO_L57N_6/VREF_6 (io), P2 IO_L57P_6 (io), P3 IO_L55N_6 (io), P4 IO_L55P_6 (io), P5 IO_L59P_6 (io), P6 IO_L54N_6 (io), R1 IO_L53N_6 (io), R2 IO_L53P_6 (io), R3 IO_L51N_6/VREF_6 (io), R4 IO_L51P_6 (io), R5 IO_L54P_6 (io), T1 IO_L49N_6 (io), T2 IO_L49P_6 (io), T3 IO_L48N_6 (io), T4 IO_L48P_6 (io), T5 IO_L47N_6 (io), U1 IO_L45N_6/VREF_6 (io), U2 IO_L45P_6 (io), U3 IO_L43N_6 (io), U4 IO_L43P_6 (io), U5 IO_L47P_6 (io), U12 IO_L74N_4/GCLK3S (io), U13 IO_L67N_4 (io), U14 IO_L07N_4 (io), V1 IO_L06N_6 (io), V2 IO_L06P_6 (io), V3 IO_L05N_6 (io), V4 IO_L05P_6 (io), V12 IO_L74P_4/GCLK2P (io), V13 IO_L67P_4 (io), V14 IO_L07P_4/VREF_4 (io), V15 IO_L05_4/No_Pair (io), V16 IO_L02P_4/D1 (io), V17 IO_L02N_4/D0 (io), W1 IO_L03N_6/VREF_6 (io), W2 IO_L03P_6 (io), W12 IO_L75N_4/GCLK1S (io), W13 IO_L09P_4/VREF_4 (io), W14 IO_L09N_4 (io), W15 IO_L06N_4/VRP_4 (io), W16 IO_L03N_4/D2 (io), W17 IO_L01P_4/INIT_B (io), W18 IO_L01N_4/DOUT (io), Y1 IO_L02N_6 (io), Y2 IO_L02P_6 (io), Y12 IO_L75P_4/GCLK0P (io), Y13 IO_L69N_4 (io), Y15 IO_L06P_4/VRN_4 (io), Y16 IO_L03P_4/D3 (io)
part B pins: AA11 IO_L69N_5/VREF_5 (io), AA22 IO_L01N_3/VRP_3 (io), AB21 IO_L01P_3/VRN_3 (io), B12 IO_L69N_1/VREF_1 (io), C1 IO_L01P_7/VRN_7 (io), C2 IO_L01N_7/VRP_7 (io), C12 IO_L75N_1/GCLK3P (io), C13 IO_L69P_1 (io), C15 IO_L06N_1 (io), C16 IO_L03N_1/VREF_1 (io), D1 IO_L02P_7 (io), D2 IO_L02N_7 (io), D12 IO_L75P_1/GCLK2S (io), D13 IO_L09N_1/VREF_1 (io), D14 IO_L09P_1 (io), D15 IO_L06P_1 (io), D16 IO_L03P_1 (io), D17 IO_L01N_1/VRP_1 (io), D18 IO_L01P_1/VRN_1 (io), E1 IO_L04P_7 (io), E2 IO_L04N_7/VREF_7 (io), E3 IO_L03P_7 (io), E4 IO_L03N_7 (io), E12 IO_L74N_1/GCLK1P (io), E13 IO_L67N_1 (io), E14 IO_L07N_1 (io), E15 IO_L05_1/No_Pair (io), E16 IO_L02N_1 (io), E17 IO_L02P_1 (io), F1 IO_L43P_7 (io), F2 IO_L43N_7 (io), F3 IO_L06P_7 (io), F4 IO_L06N_7 (io), F5 IO_L46N_7/VREF_7 (io), F12 IO_L74P_1/GCLK0S (io), F13 IO_L67P_1 (io), F14 IO_L07P_1 (io), G1 IO_L49P_7 (io), G2 IO_L49N_7 (io), G3 IO_L48P_7 (io), G4 IO_L48N_7 (io), G5 IO_L46P_7 (io), H1 IO_L52P_7 (io), H2 IO_L52N_7/VREF_7 (io), H3 IO_L50P_7 (io), H4 IO_L50N_7 (io), H5 IO_L54N_7 (io), J1 IO_L56P_7 (io), J2 IO_L56N_7 (io), J3 IO_L55P_7 (io), J4 IO_L55N_7 (io), J5 IO_L58N_7/VREF_7 (io), J6 IO_L54P_7 (io), K1 IO_L85P_7 (io), K2 IO_L85N_7 (io), K3 IO_L60P_7 (io), K4 IO_L60N_7 (io), K5 IO_L58P_7 (io), K6 IO_L86N_7 (io), L2 IO_L90P_7 (io), L3 IO_L90N_7 (io), L4 IO_L88P_7 (io), L5 IO_L88N_7/VREF_7 (io), L6 IO_L86P_7 (io), M17 IO_L87N_3/VREF_3 (io), M18 IO_L89P_3 (io), M19 IO_L89N_3 (io), M20 IO_L90P_3 (io), M21 IO_L90N_3 (io), N17 IO_L87P_3 (io), N18 IO_L59N_3 (io), N19 IO_L60P_3 (io), N20 IO_L60N_3 (io), N21 IO_L85P_3 (io), N22 IO_L85N_3 (io), P17 IO_L54N_3 (io), P18 IO_L59P_3 (io), P19 IO_L55P_3 (io), P20 IO_L55N_3 (io), P21 IO_L57P_3 (io), P22 IO_L57N_3/VREF_3 (io), R18 IO_L54P_3 (io), R19 IO_L51P_3 (io), R20 IO_L51N_3/VREF_3 (io), R21 IO_L53P_3 (io), R22 IO_L53N_3 (io), T18 IO_L47N_3 (io), T19 IO_L48P_3 (io), T20 IO_L48N_3 (io), T21 IO_L49P_3 (io), T22 IO_L49N_3 (io), U9 IO_L07P_5 (io), U10 IO_L67P_5 (io), U11 IO_L74P_5/GCLK4P (io), U18 IO_L47P_3 (io), U19 IO_L43P_3 (io), U20 IO_L43N_3 (io), U21 IO_L45P_3 (io), U22 IO_L45N_3/VREF_3 (io), V6 IO_L02P_5/D7 (io), V7 IO_L02N_5/D6 (io), V8 IO_L05_5/No_Pair (io), V9 IO_L07N_5/VREF_5 (io), V10 IO_L67N_5 (io), V11 IO_L74N_5/GCLK5S (io), V19 IO_L05P_3 (io), V20 IO_L05N_3 (io), V21 IO_L06P_3 (io), V22 IO_L06N_3 (io), W5 IO_L01P_5/CS_B (io), W6 IO_L01N_5/RDWR_B (io), W7 IO_L03P_5/D5 (io), W8 IO_L06P_5/VRN_5 (io), W9 IO_L09P_5 (io), W10 IO_L09N_5/VREF_5 (io), W11 IO_L75P_5/GCLK6P (io), W21 IO_L03P_3 (io), W22 IO_L03N_3/VREF_3 (io), Y7 IO_L03N_5/D4 (io), Y8 IO_L06N_5/VRP_5 (io), Y10 IO_L69P_5 (io), Y11 IO_L75N_5/GCLK7S (io), Y21 IO_L02P_3 (io), Y22 IO_L02N_3 (io)
part C pins: A3 NC, A4 NC, A5 NC, A6 NC, A7 TXNPAD6 (hiz), A8 TXPPAD6 (hiz), A9 RXPPAD6 (in), A10 RXNPAD6 (in), A13 TXNPAD7 (hiz), A14 TXPPAD7 (hiz), A15 RXPPAD7 (in), A16 RXNPAD7 (in), A17 NC, A18 NC, A19 NC, A20 NC, AA3 NC, AA4 NC, AA5 NC, AA6 NC, AA7 VTTXPAD19 (power), AA8 AVCCAUXTX19 (power), AA9 VTRXPAD19 (power), AA10 AVCCAUXRX19 (power), AA13 VTTXPAD18 (power), AA14 AVCCAUXTX18 (power), AA15 VTRXPAD18 (power), AA16 AVCCAUXRX18 (power), AA17 NC, AA18 NC, AA19 NC, AA20 NC, AB3 NC, AB4 NC, AB5 NC, AB6 NC, AB7 TXNPAD19 (hiz), AB8 TXPPAD19 (hiz), AB9 RXPPAD19 (in), AB10 RXNPAD19 (in), AB13 TXNPAD18 (hiz), AB14 TXPPAD18 (hiz), AB15 RXPPAD18 (in), AB16 RXNPAD18 (in), AB17 NC, AB18 NC, AB19 NC, AB20 NC, B3 NC, B4 NC, B5 NC, B6 NC, B7 VTTXPAD6 (power), B8 AVCCAUXTX6 (power), B9 VTRXPAD6 (power), B10 AVCCAUXRX6 (power), B13 VTTXPAD7 (power), B14 AVCCAUXTX7 (power), B15 VTRXPAD7 (power), B16 AVCCAUXRX7 (power), B17 NC, B18 NC, B19 NC, B20 NC, C6 NC, C9 GNDA6 (power), C14 GNDA7 (power), C17 NC, Y6 NC, Y9 GNDA19 (power), Y14 GNDA18 (power), Y17 NC
part D pins: F7 VCCO_0 (power), F8 VCCO_0 (power), F15 VCCO_1 (power), F16 VCCO_1 (power), G6 VCCO_7 (power), G9 VCCO_0 (power), G10 VCCO_0 (power), G11 VCCO_0 (power), G12 VCCO_1 (power), G13 VCCO_1 (power), G14 VCCO_1 (power), G17 VCCO_2 (power), H6 VCCO_7 (power), H17 VCCO_2 (power), J7 VCCO_7 (power), J16 VCCO_2 (power), K7 VCCO_7 (power), K16 VCCO_2 (power), L7 VCCO_7 (power), L16 VCCO_2 (power), M7 VCCO_6 (power), M16 VCCO_3 (power), N7 VCCO_6 (power), N16 VCCO_3 (power), P7 VCCO_6 (power), P16 VCCO_3 (power), R6 VCCO_6 (power), R17 VCCO_3 (power), T6 VCCO_6 (power), T9 VCCO_5 (power), T10 VCCO_5 (power), T11 VCCO_5 (power), T12 VCCO_4 (power), T13 VCCO_4 (power), T14 VCCO_4 (power), T17 VCCO_3 (power), U7 VCCO_5 (power), U8 VCCO_5 (power), U15 VCCO_4 (power), U16 VCCO_4 (power)
part E pins: A1 GND (power), A2 HSWAP_EN (in), A11 GND (power), A12 VCCAUX (power), A21 TMS (in), A22 GND (power), AA2 VCCAUX (power), AA21 VCCAUX (power), AB1 GND (power), AB11 VCCAUX (power), AB12 GND (power), AB22 GND (power), B1 PROG_B (in), B2 VCCAUX (power), B21 VCCAUX (power), B22 TCK (in), C3 GND (power), C4 DXP, C5 DXN, C18 RSVD, C19 VBATT (power), C20 GND (power), D3 TDI (in), D4 GND (power), D19 GND (power), D20 TDO (out), E5 GND (power), E18 GND (power), F6 VCCINT (power), F17 VCCINT (power), G7 VCCINT (power), G8 VCCINT (power), G15 VCCINT (power), G16 VCCINT (power), H7 VCCINT (power), H16 VCCINT (power), J9 GND (power), J10 GND (power), J11 GND (power), J12 GND (power), J13 GND (power), J14 GND (power), K9 GND (power), K10 GND (power), K11 GND (power), K12 GND (power), K13 GND (power), K14 GND (power), L1 VCCAUX (power), L9 GND (power), L10 GND (power), L11 GND (power), L12 GND (power), L13 GND (power), L14 GND (power), L22 GND (power), M1 GND (power), M9 GND (power), M10 GND (power), M11 GND (power), M12 GND (power), M13 GND (power), M14 GND (power), M22 VCCAUX (power), N9 GND (power), N10 GND (power), N11 GND (power), N12 GND (power), N13 GND (power), N14 GND (power), P9 GND (power), P10 GND (power), P11 GND (power), P12 GND (power), P13 GND (power), P14 GND (power), R7 VCCINT (power), R16 VCCINT (power), T7 VCCINT (power), T8 VCCINT (power), T15 VCCINT (power), T16 VCCINT (power), U6 VCCINT (power), U17 VCCINT (power), V5 GND (power), V18 GND (power), W3 M1 (in), W4 GND (power), W19 GND (power), W20 CCLK (io), Y3 GND (power), Y4 M0 (in), Y5 M2 (in), Y18 DONE (io), Y19 PWRDWN_B (in), Y20 GND (power)
part A text: BANK 0; BANK 6; BANK 2; BANK 4
part B text: BANK 1; BANK 7; BANK 3; BANK 5
part C text: TRANSCEIVER CORE

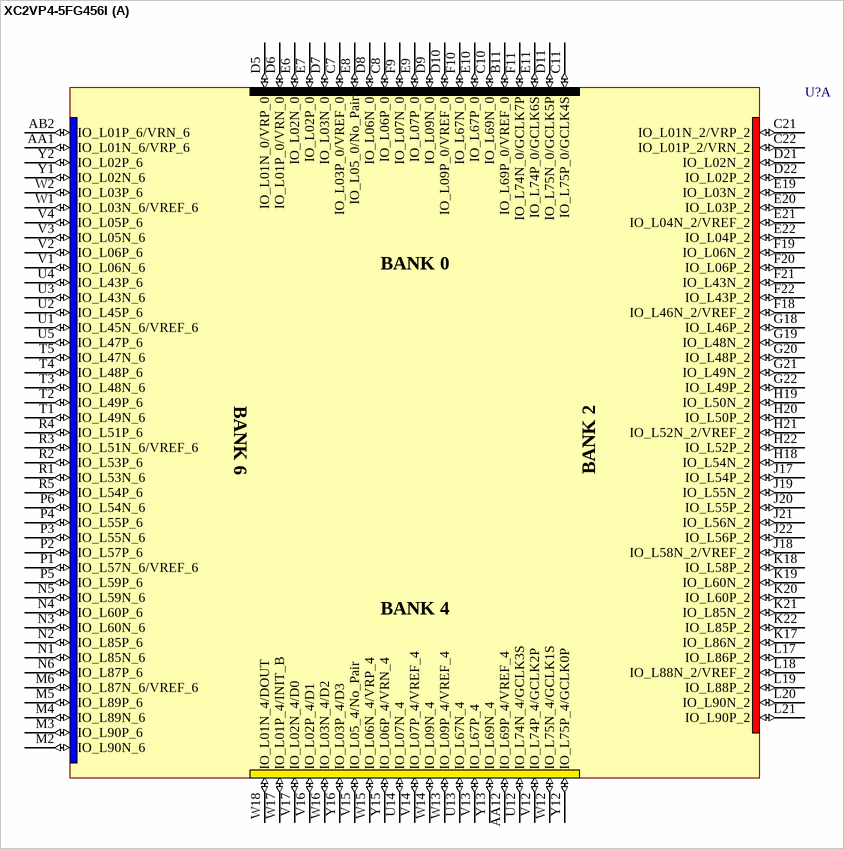
[diagram p39: symbol XC2VP4-5FG456I]

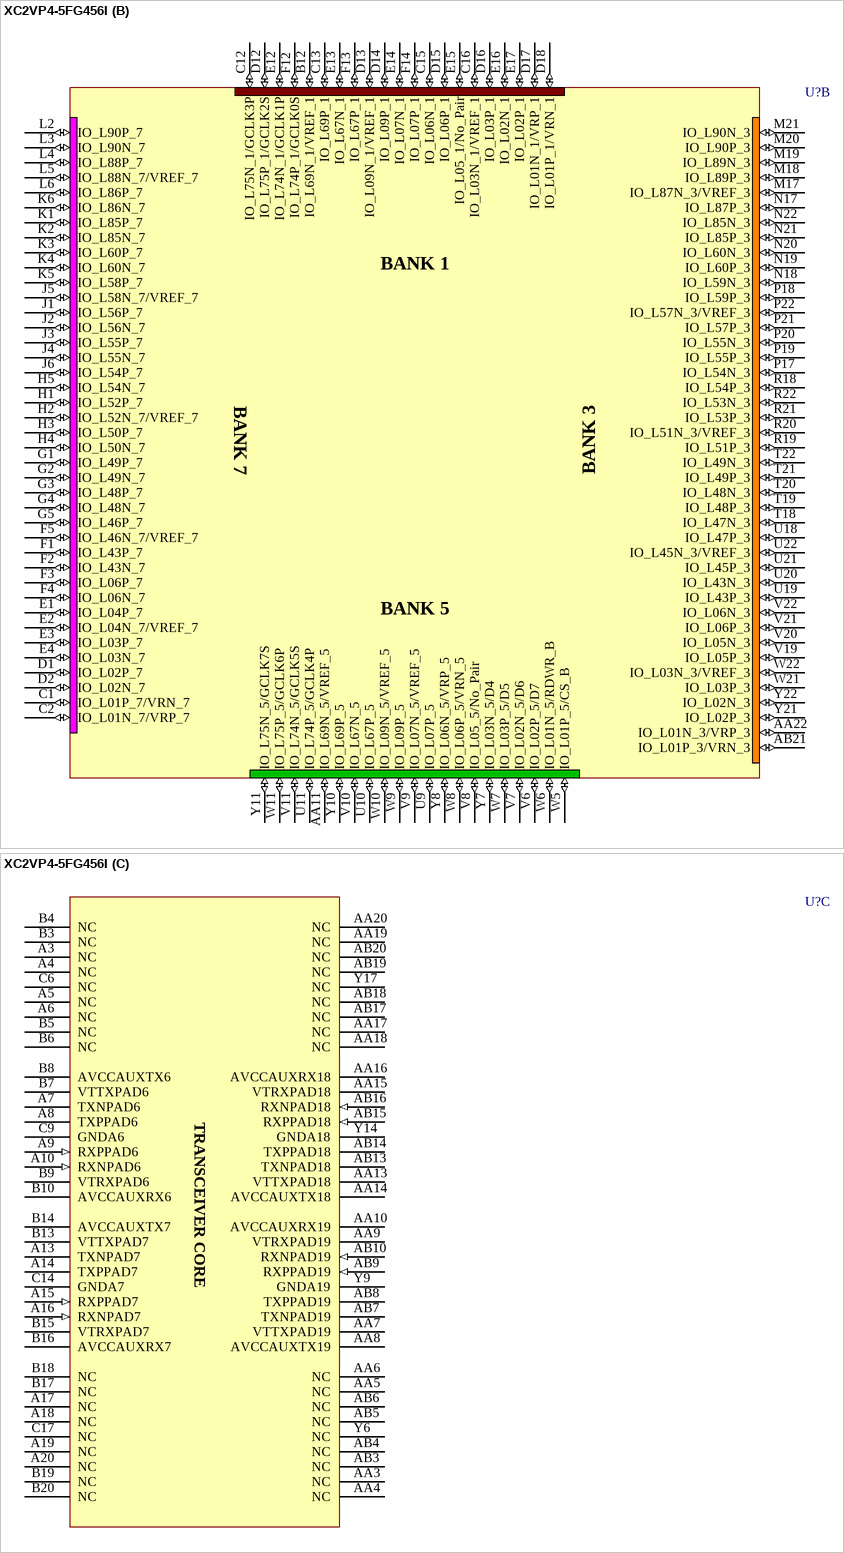
[diagram p40: symbol XC2VP4-5FG456I]

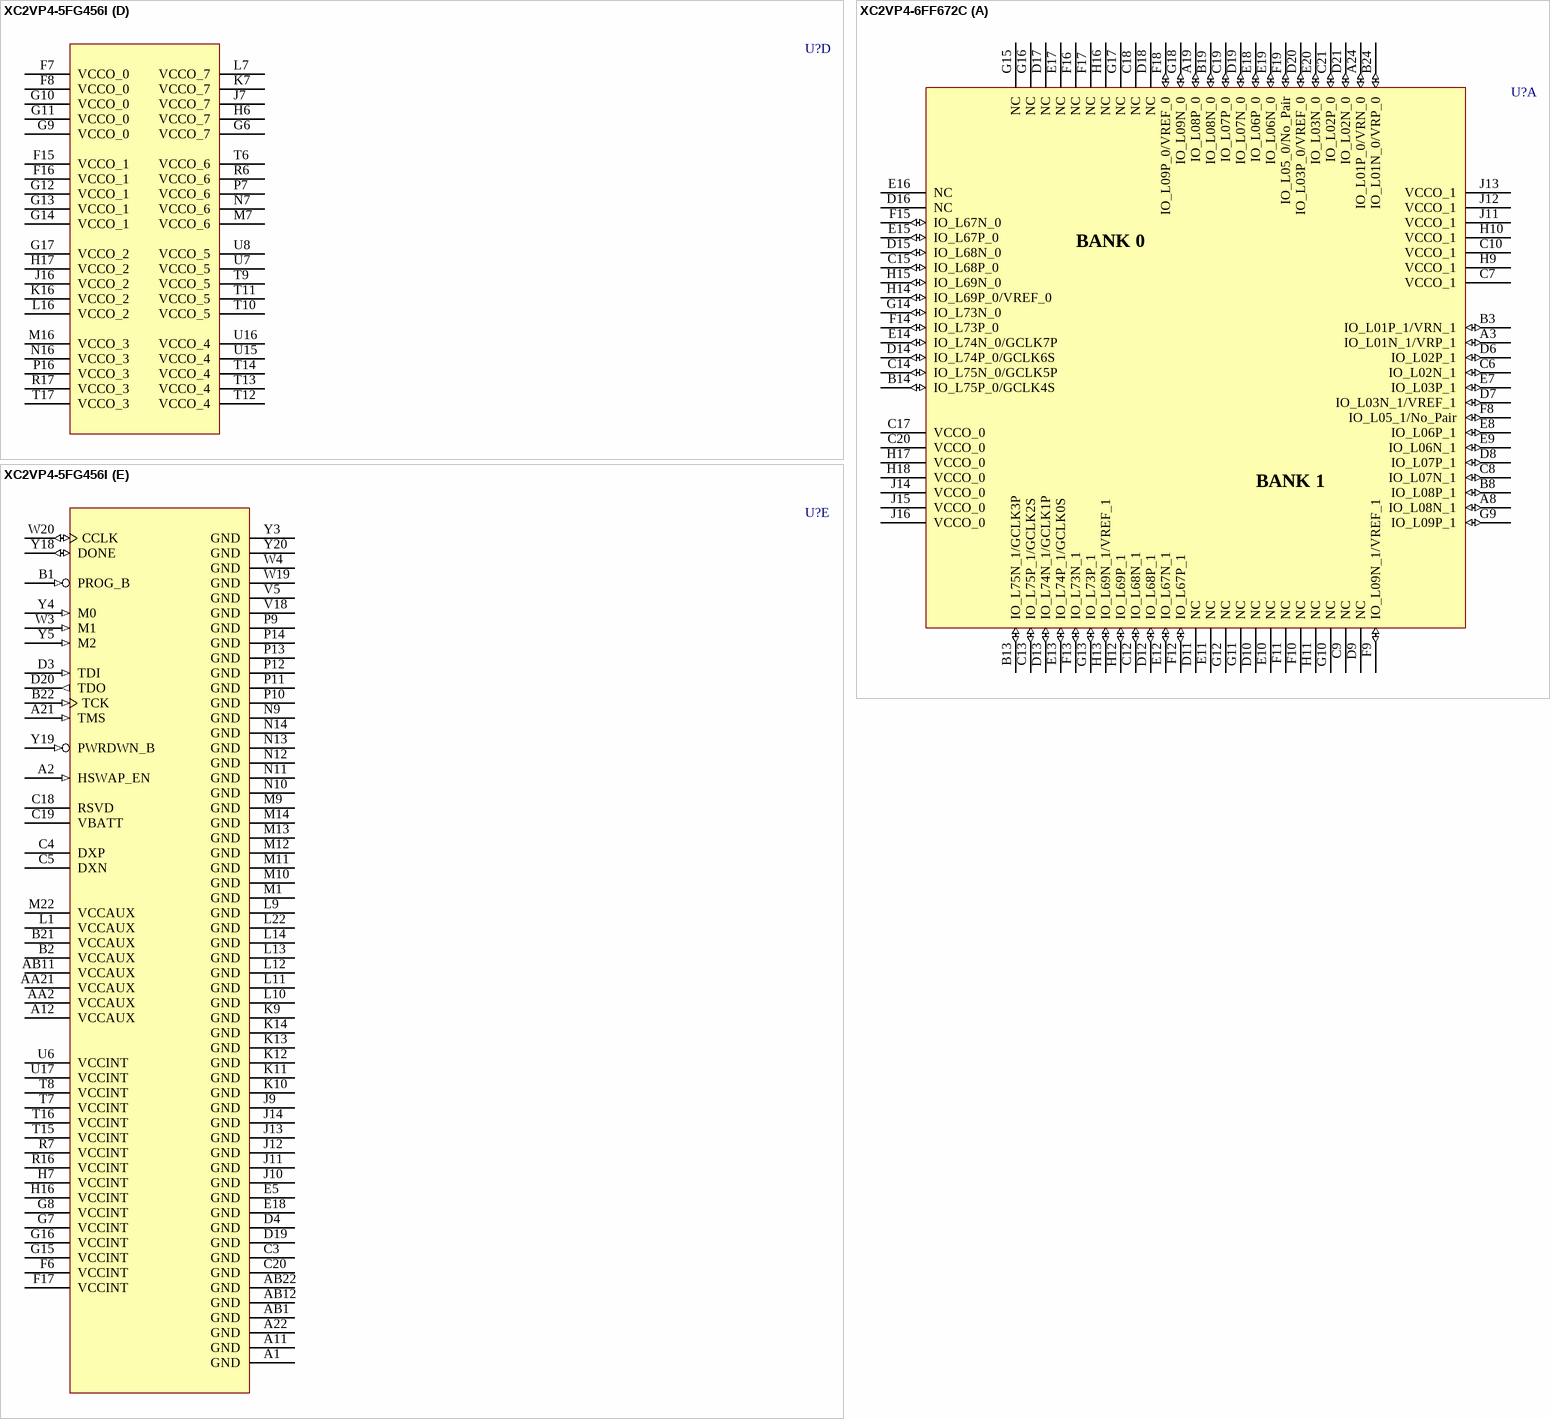
[diagram p41: symbols XC2VP4-5FG456I to XC2VP4-6FF672C]